# Altium integrated library Protel DOS Schematic Libraries.IntLib: 1273 symbols (part 4 of 9)
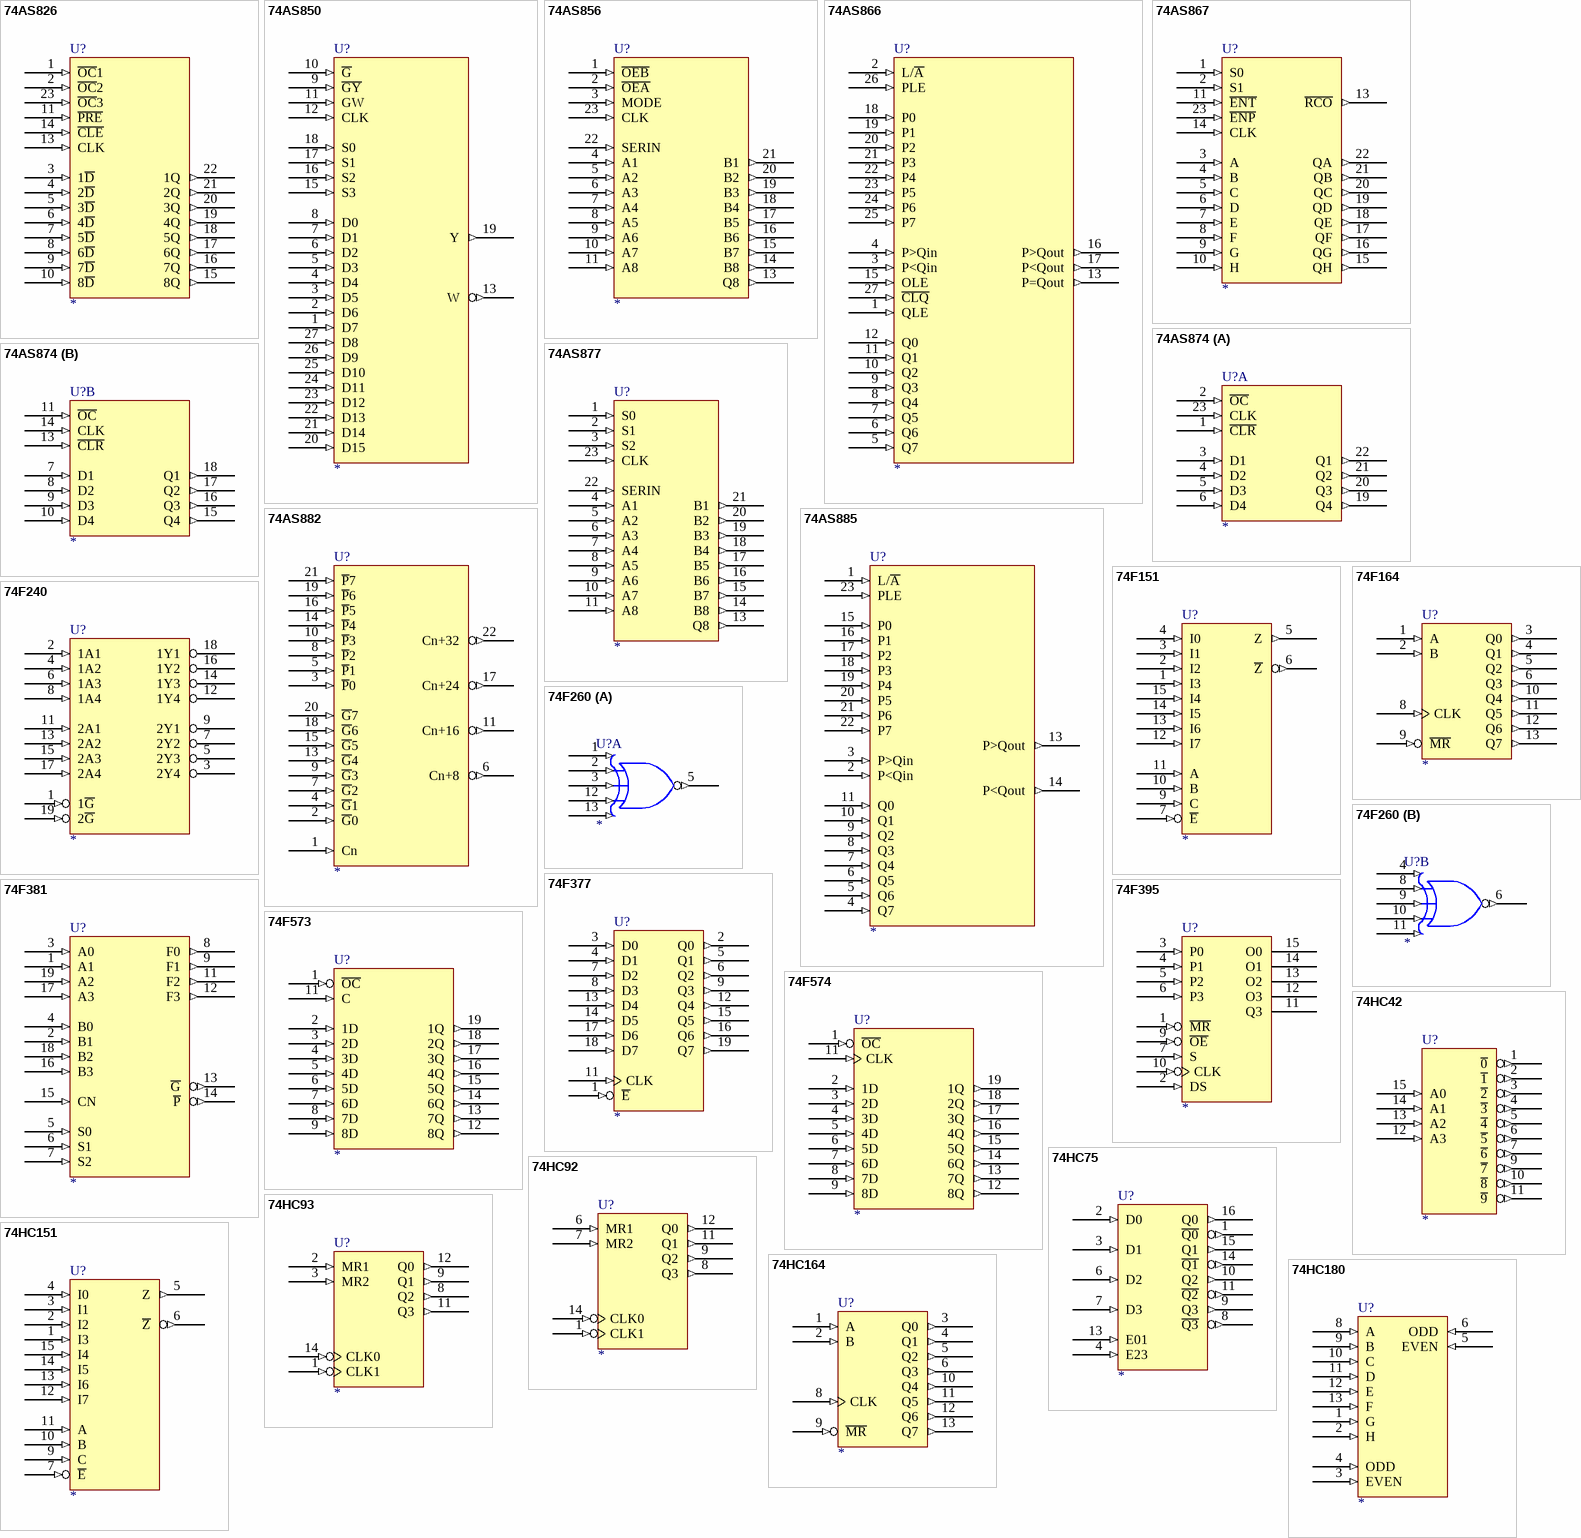
[diagram p72: symbols 74AS826 to 74HC180]

## 74AS850
designator U?
footprint DIP-28
pins: 1 D7 (in), 2 D6 (in), 3 D5 (in), 4 D4 (in), 5 D3 (in), 6 D2 (in), 7 D1 (in), 8 D0 (in), 9 ~{GY} (in), 10 ~{G} (in), 11 GW (in), 12 CLK (in), 13 W (out), 14 GND (power) hidden to GND, 15 S3 (in), 16 S2 (in), 17 S1 (in), 18 S0 (in), 19 Y (out), 20 D15 (in), 21 D14 (in), 22 D13 (in), 23 D12 (in), 24 D11 (in), 25 D10 (in), 26 D9 (in), 27 D8 (in), 28 VCC (power) hidden to VCC

## 74AS856
designator U?
footprint DIP-24
pins: 1 ~{OEB} (in), 2 ~{OEA} (in), 3 MODE (in), 4 A1 (in), 5 A2 (in), 6 A3 (in), 7 A4 (in), 8 A5 (in), 9 A6 (in), 10 A7 (in), 11 A8 (in), 12 GND (power) hidden to GND, 13 Q8 (out), 14 B8 (out), 15 B7 (out), 16 B6 (out), 17 B5 (out), 18 B4 (out), 19 B3 (out), 20 B2 (out), 21 B1 (out), 22 SERIN (in), 23 CLK (in), 24 VCC (power) hidden to VCC

## 74AS866
designator U?
footprint DIP-28
pins: 1 QLE (in), 2 L/~{A} (in), 3 P<Qin (in), 4 P>Qin (in), 5 Q7 (in), 6 Q6 (in), 7 Q5 (in), 8 Q4 (in), 9 Q3 (in), 10 Q2 (in), 11 Q1 (in), 12 Q0 (in), 13 P=Qout (out), 14 GND (power) hidden to GND, 15 OLE (in), 16 P>Qout (out), 17 P<Qout (out), 18 P0 (in), 19 P1 (in), 20 P2 (in), 21 P3 (in), 22 P4 (in), 23 P5 (in), 24 P6 (in), 25 P7 (in), 26 PLE (in), 27 ~{CLQ} (in), 28 VCC (power) hidden to VCC

## 74AS867
designator U?
footprint DIP-24
pins: 1 S0 (in), 2 S1 (in), 3 A (in), 4 B (in), 5 C (in), 6 D (in), 7 E (in), 8 F (in), 9 G (in), 10 H (in), 11 ~{ENT} (in), 12 GND (power) hidden to GND, 13 ~{RCO} (out), 14 CLK (in), 15 QH (out), 16 QG (out), 17 QF (out), 18 QE (out), 19 QD (out), 20 QC (out), 21 QB (out), 22 QA (out), 23 ~{ENP} (in), 24 VCC (power) hidden to VCC

## 74AS874
designator U?
footprint DIP-24
part A pins: 1 ~{CLR} (in), 2 ~{OC} (in), 3 D1 (in), 4 D2 (in), 5 D3 (in), 6 D4 (in), 12 GND (power) hidden to GND, 19 Q4 (out), 20 Q3 (out), 21 Q2 (out), 22 Q1 (out), 23 CLK (in), 24 VCC (power) hidden to VCC
part B pins: 7 D1 (in), 8 D2 (in), 9 D3 (in), 10 D4 (in), 11 ~{OC} (in), 12 GND (power) hidden to GND, 13 ~{CLR} (in), 14 CLK (in), 15 Q4 (out), 16 Q3 (out), 17 Q2 (out), 18 Q1 (out), 24 VCC (power) hidden to VCC

## 74AS877
designator U?
footprint DIP-24
pins: 1 S0 (in), 2 S1 (in), 3 S2 (in), 4 A1 (in), 5 A2 (in), 6 A3 (in), 7 A4 (in), 8 A5 (in), 9 A6 (in), 10 A7 (in), 11 A8 (in), 12 GND (power) hidden to GND, 13 Q8 (out), 14 B8 (out), 15 B7 (out), 16 B6 (out), 17 B5 (out), 18 B4 (out), 19 B3 (out), 20 B2 (out), 21 B1 (out), 22 SERIN (in), 23 CLK (in), 24 VCC (power) hidden to VCC

## 74AS882
designator U?
footprint DIP-24
pins: 1 Cn (in), 2 ~{G}0 (in), 3 ~{P}0 (in), 4 ~{G}1 (in), 5 ~{P}1 (in), 6 Cn+8 (out), 7 ~{G}2 (in), 8 ~{P}2 (in), 9 ~{G}3 (in), 10 ~{P}3 (in), 11 Cn+16 (out), 12 GND (power) hidden to GND, 13 ~{G}4 (in), 14 ~{P}4 (in), 15 ~{G}5 (in), 16 ~{P}5 (in), 17 Cn+24 (out), 18 ~{G}6 (in), 19 ~{P}6 (in), 20 ~{G}7 (in), 21 ~{P}7 (in), 22 Cn+32 (out), 24 VCC (power) hidden to VCC

## 74AS885
designator U?
footprint DIP-24
pins: 1 L/~{A} (in), 2 P<Qin (in), 3 P>Qin (in), 4 Q7 (in), 5 Q6 (in), 6 Q5 (in), 7 Q4 (in), 8 Q3 (in), 9 Q2 (in), 10 Q1 (in), 11 Q0 (in), 12 GND (power) hidden to GND, 13 P>Qout (out), 14 P<Qout (out), 15 P0 (in), 16 P1 (in), 17 P2 (in), 18 P3 (in), 19 P4 (in), 20 P5 (in), 21 P6 (in), 22 P7 (in), 23 PLE (in), 24 VCC (power) hidden to VCC

## 74F151
designator U?
footprint DIP-16
pins: 1 I3 (in), 2 I2 (in), 3 I1 (in), 4 I0 (in), 5 Z (out), 6 ~{Z} (out), 7 ~{E} (in), 8 GND (power) hidden to GND, 9 C (in), 10 B (in), 11 A (in), 12 I7 (in), 13 I6 (in), 14 I5 (in), 15 I4 (in), 16 VCC (power) hidden to VCC

## 74F164
designator U?
footprint DIP-14
pins: 1 A (in), 2 B (in), 3 Q0 (out), 4 Q1 (out), 5 Q2 (out), 6 Q3 (out), 7 GND (power) hidden to GND, 8 CLK (in), 9 ~{MR} (in), 10 Q4 (out), 11 Q5 (out), 12 Q6 (out), 13 Q7 (out), 14 VCC (power) hidden to VCC

## 74F240
designator U?
footprint DIP-20
pins: 1 1~{G} (in), 2 1A1 (in), 3 2Y4 (hiz), 4 1A2 (in), 5 2Y3 (hiz), 6 1A3 (in), 7 2Y2 (hiz), 8 1A4 (in), 9 2Y1 (hiz), 10 GND (power) hidden to GND, 11 2A1 (in), 12 1Y4 (hiz), 13 2A2 (in), 14 1Y3 (hiz), 15 2A3 (in), 16 1Y2 (hiz), 17 2A4 (in), 18 1Y1 (hiz), 19 2~{G} (in), 20 VCC (power) hidden to VCC

## 74F260
designator U?
footprint DIP-14
part A pins: 1 (in), 2 (in), 3 (in), 5 (out), 7 GND (power) hidden to GND, 12 (in), 13 (in), 14 VCC (power) hidden to VCC
part B pins: 4 (in), 6 (out), 7 GND (power) hidden to GND, 8 (in), 9 (in), 10 (in), 11 (in), 14 VCC (power) hidden to VCC

## 74F377
designator U?
footprint DIP-20
pins: 1 ~{E} (in), 2 Q0 (out), 3 D0 (in), 4 D1 (in), 5 Q1 (out), 6 Q2 (out), 7 D2 (in), 8 D3 (in), 9 Q3 (out), 10 GND (power) hidden to GND, 11 CLK (in), 12 Q4 (out), 13 D4 (in), 14 D5 (in), 15 Q5 (out), 16 Q6 (out), 17 D6 (in), 18 D7 (in), 19 Q7 (out), 20 VCC (power) hidden to VCC

## 74F381
designator U?
footprint DIP-20
pins: 1 A1 (in), 2 B1 (in), 3 A0 (in), 4 B0 (in), 5 S0 (in), 6 S1 (in), 7 S2 (in), 8 F0 (out), 9 F1 (out), 10 GND (power) hidden to GND, 11 F2 (out), 12 F3 (out), 13 ~{G} (out), 14 ~{P} (out), 15 CN (in), 16 B3 (in), 17 A3 (in), 18 B2 (in), 19 A2 (in), 20 VCC (power) hidden to VCC

## 74F395
designator U?
footprint DIP-16
pins: 1 ~{MR} (in), 2 DS (in), 3 P0 (in), 4 P1 (in), 5 P2 (in), 6 P3 (in), 7 S (in), 8 GND (power) hidden to GND, 9 ~{OE} (in), 10 CLK (in), 11 Q3 (hiz), 12 O3 (hiz), 13 O2 (hiz), 14 O1 (hiz), 15 O0 (hiz), 16 VCC (power) hidden to VCC

## 74F573
designator U?
footprint DIP-20
pins: 1 ~{OC} (in), 2 1D (in), 3 2D (in), 4 3D (in), 5 4D (in), 6 5D (in), 7 6D (in), 8 7D (in), 9 8D (in), 10 GND (power) hidden to GND, 11 C (in), 12 8Q (out), 13 7Q (out), 14 6Q (out), 15 5Q (out), 16 4Q (out), 17 3Q (out), 18 2Q (out), 19 1Q (out), 20 VCC (power) hidden to VCC

## 74F574
designator U?
footprint DIP-20
pins: 1 ~{OC} (in), 2 1D (in), 3 2D (in), 4 3D (in), 5 4D (in), 6 5D (in), 7 6D (in), 8 7D (in), 9 8D (in), 10 GND (power) hidden to GND, 11 CLK (in), 12 8Q (out), 13 7Q (out), 14 6Q (out), 15 5Q (out), 16 4Q (out), 17 3Q (out), 18 2Q (out), 19 1Q (out), 20 VCC (power) hidden to VCC

## 74HC42
designator U?
footprint DIP-16
pins: 1 ~{0} (out), 2 ~{1} (out), 3 ~{2} (out), 4 ~{3} (out), 5 ~{4} (out), 6 ~{5} (out), 7 ~{6} (out), 8 GND (power) hidden to GND, 9 ~{7} (out), 10 ~{8} (out), 11 ~{9} (out), 12 A3 (in), 13 A2 (in), 14 A1 (in), 15 A0 (in), 16 VCC (power) hidden to VCC

## 74HC75
designator U?
footprint DIP-16
pins: 1 ~{Q0} (out), 2 D0 (in), 3 D1 (in), 4 E23 (in), 5 VCC (power) hidden to VCC, 6 D2 (in), 7 D3 (in), 8 ~{Q3} (out), 9 Q3 (out), 10 Q2 (out), 11 ~{Q2} (out), 12 GND (power) hidden to GND, 13 E01 (in), 14 ~{Q1} (out), 15 Q1 (out), 16 Q0 (out)

## 74HC92
designator U?
footprint DIP-14
pins: 1 CLK1 (in), 5 VCC (power) hidden to VCC, 6 MR1 (in), 7 MR2 (in), 8 Q3 (out), 9 Q2 (out), 10 GND (power) hidden to GND, 11 Q1 (out), 12 Q0 (out), 14 CLK0 (in)

## 74HC93
designator U?
footprint DIP-14
pins: 1 CLK1 (in), 2 MR1 (in), 3 MR2 (in), 5 VCC (power) hidden to VCC, 8 Q2 (out), 9 Q1 (out), 10 GND (power) hidden to GND, 11 Q3 (out), 12 Q0 (out), 14 CLK0 (in)

## 74HC151
designator U?
footprint DIP-16
pins: 1 I3 (in), 2 I2 (in), 3 I1 (in), 4 I0 (in), 5 Z (out), 6 ~{Z} (out), 7 ~{E} (in), 8 GND (power) hidden to GND, 9 C (in), 10 B (in), 11 A (in), 12 I7 (in), 13 I6 (in), 14 I5 (in), 15 I4 (in), 16 VCC (power) hidden to VCC

## 74HC164
designator U?
footprint DIP-14
pins: 1 A (in), 2 B (in), 3 Q0 (out), 4 Q1 (out), 5 Q2 (out), 6 Q3 (out), 7 GND (power) hidden to GND, 8 CLK (in), 9 ~{MR} (in), 10 Q4 (out), 11 Q5 (out), 12 Q6 (out), 13 Q7 (out), 14 VCC (power) hidden to VCC

## 74HC180
designator U?
footprint DIP-14
pins: 1 G (in), 2 H (in), 3 EVEN (in), 4 ODD (in), 5 EVEN (in), 6 ODD (in), 7 GND (power) hidden to GND, 8 A (in), 9 B (in), 10 C (in), 11 D (in), 12 E (in), 13 F (in), 14 VCC (power) hidden to VCC

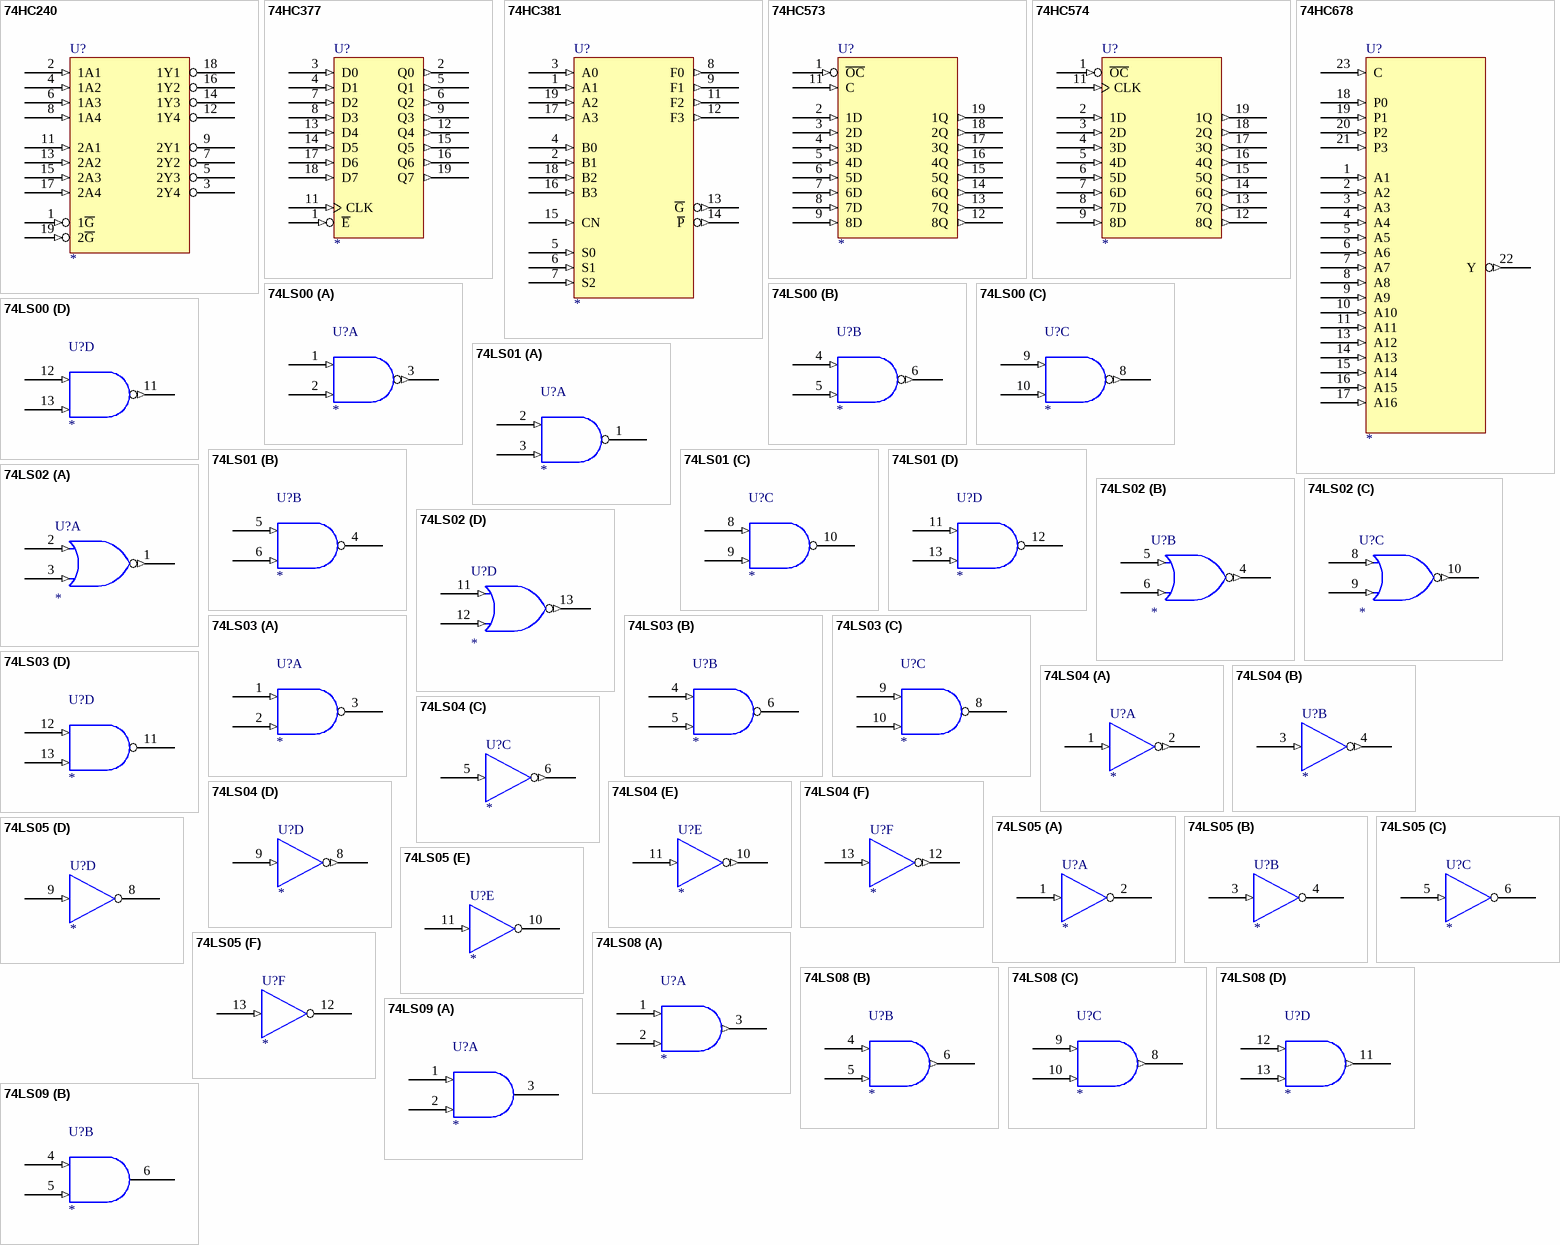
[diagram p26: symbols 74HC240 to 74LS09]

## 74HC240
designator U?
footprint DIP-20
pins: 1 1~{G} (in), 2 1A1 (in), 3 2Y4 (hiz), 4 1A2 (in), 5 2Y3 (hiz), 6 1A3 (in), 7 2Y2 (hiz), 8 1A4 (in), 9 2Y1 (hiz), 10 GND (power) hidden to GND, 11 2A1 (in), 12 1Y4 (hiz), 13 2A2 (in), 14 1Y3 (hiz), 15 2A3 (in), 16 1Y2 (hiz), 17 2A4 (in), 18 1Y1 (hiz), 19 2~{G} (in), 20 VCC (power) hidden to VCC

## 74HC377
designator U?
footprint DIP-20
pins: 1 ~{E} (in), 2 Q0 (out), 3 D0 (in), 4 D1 (in), 5 Q1 (out), 6 Q2 (out), 7 D2 (in), 8 D3 (in), 9 Q3 (out), 11 CLK (in), 11 GND (power) hidden to GND, 12 Q4 (out), 13 D4 (in), 14 D5 (in), 15 Q5 (out), 16 Q6 (out), 17 D6 (in), 18 D7 (in), 19 Q7 (out), 20 VCC (power) hidden to VCC

## 74HC381
designator U?
footprint DIP-20
pins: 1 A1 (in), 2 B1 (in), 3 A0 (in), 4 B0 (in), 5 S0 (in), 6 S1 (in), 7 S2 (in), 8 F0 (out), 9 F1 (out), 10 GND (power) hidden to GND, 11 F2 (out), 12 F3 (out), 13 ~{G} (out), 14 ~{P} (out), 15 CN (in), 16 B3 (in), 17 A3 (in), 18 B2 (in), 19 A2 (in), 20 VCC (power) hidden to VCC

## 74HC573
designator U?
footprint DIP-20
pins: 1 ~{OC} (in), 2 1D (in), 3 2D (in), 4 3D (in), 5 4D (in), 6 5D (in), 7 6D (in), 8 7D (in), 9 8D (in), 10 GND (power) hidden to GND, 11 C (in), 12 8Q (out), 13 7Q (out), 14 6Q (out), 15 5Q (out), 16 4Q (out), 17 3Q (out), 18 2Q (out), 19 1Q (out), 20 VCC (power) hidden to VCC

## 74HC574
designator U?
footprint DIP-20
pins: 1 ~{OC} (in), 2 1D (in), 3 2D (in), 4 3D (in), 5 4D (in), 6 5D (in), 7 6D (in), 8 7D (in), 9 8D (in), 10 GND (power) hidden to GND, 11 CLK (in), 12 8Q (out), 13 7Q (out), 14 6Q (out), 15 5Q (out), 16 4Q (out), 17 3Q (out), 18 2Q (out), 19 1Q (out), 20 VCC (power) hidden to VCC

## 74HC678
designator U?
footprint DIP-24
pins: 1 A1 (in), 2 A2 (in), 3 A3 (in), 4 A4 (in), 5 A5 (in), 6 A6 (in), 7 A7 (in), 8 A8 (in), 9 A9 (in), 10 A10 (in), 11 A11 (in), 12 GND (power) hidden to GND, 13 A12 (in), 14 A13 (in), 15 A14 (in), 16 A15 (in), 17 A16 (in), 18 P0 (in), 19 P1 (in), 20 P2 (in), 21 P3 (in), 22 Y (out), 23 C (in), 24 VCC (power) hidden to VCC

## 74LS00
designator U?
footprint DIP-14
part A pins: 1 (in), 2 (in), 3 (out), 7 GND (power) hidden to GND, 14 VCC (power) hidden to VCC
part B pins: 4 (in), 5 (in), 6 (out), 7 GND (power) hidden to GND, 14 VCC (power) hidden to VCC
part C pins: 7 GND (power) hidden to GND, 8 (out), 9 (in), 10 (in), 14 VCC (power) hidden to VCC
part D pins: 7 GND (power) hidden to GND, 11 (out), 12 (in), 13 (in), 14 VCC (power) hidden to VCC

## 74LS01
designator U?
footprint DIP-14
part A pins: 1 (oc), 2 (in), 3 (in), 7 GND (power) hidden to GND, 14 VCC (power) hidden to VCC
part B pins: 4 (oc), 5 (in), 6 (in), 7 GND (power) hidden to GND, 14 VCC (power) hidden to VCC
part C pins: 7 GND (power) hidden to GND, 8 (in), 9 (in), 10 (oc), 14 VCC (power) hidden to VCC
part D pins: 7 GND (power) hidden to GND, 11 (in), 12 (oc), 13 (in), 14 VCC (power) hidden to VCC

## 74LS02
designator U?
footprint DIP-14
part A pins: 1 (out), 2 (in), 3 (in), 7 GND (power) hidden to GND, 14 VCC (power) hidden to VCC
part B pins: 4 (out), 5 (in), 6 (in), 7 GND (power) hidden to GND, 14 VCC (power) hidden to VCC
part C pins: 7 GND (power) hidden to GND, 8 (in), 9 (in), 10 (out), 14 VCC (power) hidden to VCC
part D pins: 7 GND (power) hidden to GND, 11 (in), 12 (in), 13 (out), 14 VCC (power) hidden to VCC

## 74LS03
designator U?
footprint DIP-14
part A pins: 1 (in), 2 (in), 3 (oc), 7 GND (power) hidden to GND, 14 VCC (power) hidden to VCC
part B pins: 4 (in), 5 (in), 6 (oc), 7 GND (power) hidden to GND, 14 VCC (power) hidden to VCC
part C pins: 7 GND (power) hidden to GND, 8 (oc), 9 (in), 10 (in), 14 VCC (power) hidden to VCC
part D pins: 7 GND (power) hidden to GND, 11 (oc), 12 (in), 13 (in), 14 VCC (power) hidden to VCC

## 74LS04
designator U?
footprint DIP-14
part A pins: 1 (in), 2 (out), 7 GND (power) hidden to GND, 14 VCC (power) hidden to VCC
part B pins: 3 (in), 4 (out), 7 GND (power) hidden to GND, 14 VCC (power) hidden to VCC
part C pins: 5 (in), 6 (out), 7 GND (power) hidden to GND, 14 VCC (power) hidden to VCC
part D pins: 7 GND (power) hidden to GND, 8 (out), 9 (in), 14 VCC (power) hidden to VCC
part E pins: 7 GND (power) hidden to GND, 10 (out), 11 (in), 14 VCC (power) hidden to VCC
part F pins: 7 GND (power) hidden to GND, 12 (out), 13 (in), 14 VCC (power) hidden to VCC

## 74LS05
designator U?
footprint DIP-14
part A pins: 1 (in), 2 (oc), 7 GND (power) hidden to GND, 14 VCC (power) hidden to VCC
part B pins: 3 (in), 4 (oc), 7 GND (power) hidden to GND, 14 VCC (power) hidden to VCC
part C pins: 5 (in), 6 (oc), 7 GND (power) hidden to GND, 14 VCC (power) hidden to VCC
part D pins: 7 GND (power) hidden to GND, 8 (oc), 9 (in), 14 VCC (power) hidden to VCC
part E pins: 7 GND (power) hidden to GND, 10 (oc), 11 (in), 14 VCC (power) hidden to VCC
part F pins: 7 GND (power) hidden to GND, 12 (oc), 13 (in), 14 VCC (power) hidden to VCC

## 74LS08
designator U?
footprint DIP-14
part A pins: 1 (in), 2 (in), 3 (out), 7 GND (power) hidden to GND, 14 VCC (power) hidden to VCC
part B pins: 4 (in), 5 (in), 6 (out), 7 GND (power) hidden to GND, 14 VCC (power) hidden to VCC
part C pins: 7 GND (power) hidden to GND, 8 (out), 9 (in), 10 (in), 14 VCC (power) hidden to VCC
part D pins: 7 GND (power) hidden to GND, 11 (out), 12 (in), 13 (in), 14 VCC (power) hidden to VCC

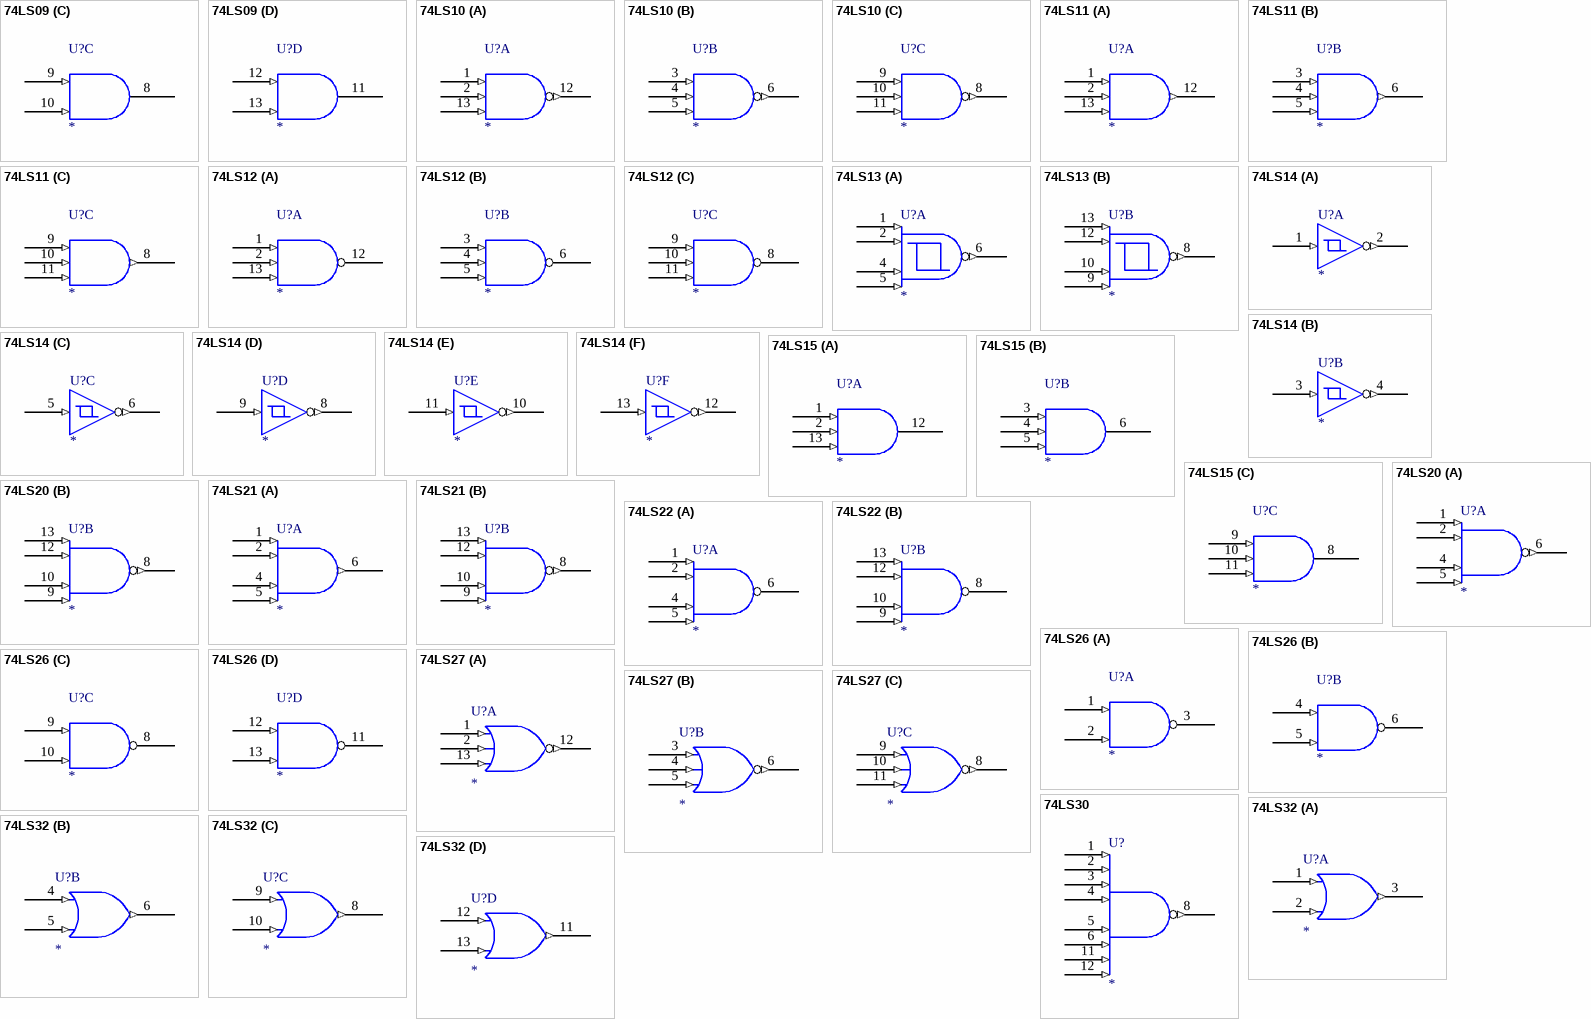
[diagram p27: symbols 74LS09 to 74LS32]

## 74LS09
designator U?
footprint DIP-14
part A pins: 1 (in), 2 (in), 3 (oc), 7 GND (power) hidden to GND, 14 VCC (power) hidden to VCC
part B pins: 4 (in), 5 (in), 6 (oc), 7 GND (power) hidden to GND, 14 VCC (power) hidden to VCC
part C pins: 7 GND (power) hidden to GND, 8 (oc), 9 (in), 10 (in), 14 VCC (power) hidden to VCC
part D pins: 7 GND (power) hidden to GND, 11 (oc), 12 (in), 13 (in), 14 VCC (power) hidden to VCC

## 74LS10
designator U?
footprint DIP-14
part A pins: 1 (in), 2 (in), 7 GND (power) hidden to GND, 12 (out), 13 (in), 14 VCC (power) hidden to VCC
part B pins: 3 (in), 4 (in), 5 (in), 6 (out), 7 GND (power) hidden to GND, 14 VCC (power) hidden to VCC
part C pins: 7 GND (power) hidden to GND, 8 (out), 9 (in), 10 (in), 11 (in), 14 VCC (power) hidden to VCC

## 74LS11
designator U?
footprint DIP-14
part A pins: 1 (in), 2 (in), 7 GND (power) hidden to GND, 12 (out), 13 (in), 14 VCC (power) hidden to VCC
part B pins: 3 (in), 4 (in), 5 (in), 6 (out), 7 GND (power) hidden to GND, 14 VCC (power) hidden to VCC
part C pins: 7 GND (power) hidden to GND, 8 (out), 9 (in), 10 (in), 11 (in), 14 VCC (power) hidden to VCC

## 74LS12
designator U?
footprint DIP-14
part A pins: 1 (in), 2 (in), 7 GND (power) hidden to GND, 12 (oc), 13 (in), 14 VCC (power) hidden to VCC
part B pins: 3 (in), 4 (in), 5 (in), 6 (oc), 7 GND (power) hidden to GND, 14 VCC (power) hidden to VCC
part C pins: 7 GND (power) hidden to GND, 8 (oc), 9 (in), 10 (in), 11 (in), 14 VCC (power) hidden to VCC

## 74LS13
designator U?
footprint DIP-14
part A pins: 1 (in), 2 (in), 4 (in), 5 (in), 6 (out), 7 GND (power) hidden to GND, 14 VCC (power) hidden to VCC
part B pins: 7 GND (power) hidden to GND, 8 (out), 9 (in), 10 (in), 12 (in), 13 (in), 14 VCC (power) hidden to VCC

## 74LS14
designator U?
footprint DIP-14
part A pins: 1 (in), 2 (out), 7 GND (power) hidden to GND, 14 VCC (power) hidden to VCC
part B pins: 3 (in), 4 (out), 7 GND (power) hidden to GND, 14 VCC (power) hidden to VCC
part C pins: 5 (in), 6 (out), 7 GND (power) hidden to GND, 14 VCC (power) hidden to VCC
part D pins: 7 GND (power) hidden to GND, 8 (out), 9 (in), 14 VCC (power) hidden to VCC
part E pins: 7 GND (power) hidden to GND, 10 (out), 11 (in), 14 VCC (power) hidden to VCC
part F pins: 7 GND (power) hidden to GND, 12 (out), 13 (in), 14 VCC (power) hidden to VCC

## 74LS15
designator U?
footprint DIP-14
part A pins: 1 (in), 2 (in), 7 GND (power) hidden to GND, 12 (oc), 13 (in), 14 VCC (power) hidden to VCC
part B pins: 3 (in), 4 (in), 5 (in), 6 (oc), 7 GND (power) hidden to GND, 14 VCC (power) hidden to VCC
part C pins: 7 GND (power) hidden to GND, 8 (oc), 9 (in), 10 (in), 11 (in), 14 VCC (power) hidden to VCC

## 74LS20
designator U?
footprint DIP-14
part A pins: 1 (in), 2 (in), 4 (in), 5 (in), 6 (out), 7 GND (power) hidden to GND, 14 VCC (power) hidden to VCC
part B pins: 7 GND (power) hidden to GND, 8 (out), 9 (in), 10 (in), 12 (in), 13 (in), 14 VCC (power) hidden to VCC

## 74LS21
designator U?
footprint DIP-14
part A pins: 1 (in), 2 (in), 4 (in), 5 (in), 6 (out), 7 GND (power) hidden to GND, 14 VCC (power) hidden to VCC
part B pins: 7 GND (power) hidden to GND, 8 (out), 9 (in), 10 (in), 12 (in), 13 (in), 14 VCC (power) hidden to VCC

## 74LS22
designator U?
footprint DIP-14
part A pins: 1 (in), 2 (in), 4 (in), 5 (in), 6 (oc), 7 GND (power) hidden to GND, 14 VCC (power) hidden to VCC
part B pins: 7 GND (power) hidden to GND, 8 (oc), 9 (in), 10 (in), 12 (in), 13 (in), 14 VCC (power) hidden to VCC

## 74LS26
designator U?
footprint DIP-14
part A pins: 1 (in), 2 (in), 3 (oc), 7 GND (power) hidden to GND, 14 VCC (power) hidden to VCC
part B pins: 4 (in), 5 (in), 6 (oc), 7 GND (power) hidden to GND, 14 VCC (power) hidden to VCC
part C pins: 7 GND (power) hidden to GND, 8 (oc), 9 (in), 10 (in), 14 VCC (power) hidden to VCC
part D pins: 7 GND (power) hidden to GND, 11 (oc), 12 (in), 13 (in), 14 VCC (power) hidden to VCC

## 74LS27
designator U?
footprint DIP-14
part A pins: 1 (in), 2 (in), 7 GND (power) hidden to GND, 12 (out), 13 (in), 14 VCC (power) hidden to VCC
part B pins: 3 (in), 4 (in), 5 (in), 6 (out), 7 GND (power) hidden to GND, 14 VCC (power) hidden to VCC
part C pins: 7 GND (power) hidden to GND, 8 (out), 9 (in), 10 (in), 11 (in), 14 VCC (power) hidden to VCC

## 74LS30
designator U?
footprint DIP-14
pins: 1 (in), 2 (in), 3 (in), 4 (in), 5 (in), 6 (in), 7 GND (power) hidden to GND, 8 (out), 11 (in), 12 (in), 14 VCC (power) hidden to VCC

## 74LS32
designator U?
footprint DIP-14
part A pins: 1 (in), 2 (in), 3 (out), 7 GND (power) hidden to GND, 14 VCC (power) hidden to VCC
part B pins: 4 (in), 5 (in), 6 (out), 7 GND (power) hidden to GND, 14 VCC (power) hidden to VCC
part C pins: 7 GND (power) hidden to GND, 8 (out), 9 (in), 10 (in), 14 VCC (power) hidden to VCC
part D pins: 7 GND (power) hidden to GND, 11 (out), 12 (in), 13 (in), 14 VCC (power) hidden to VCC

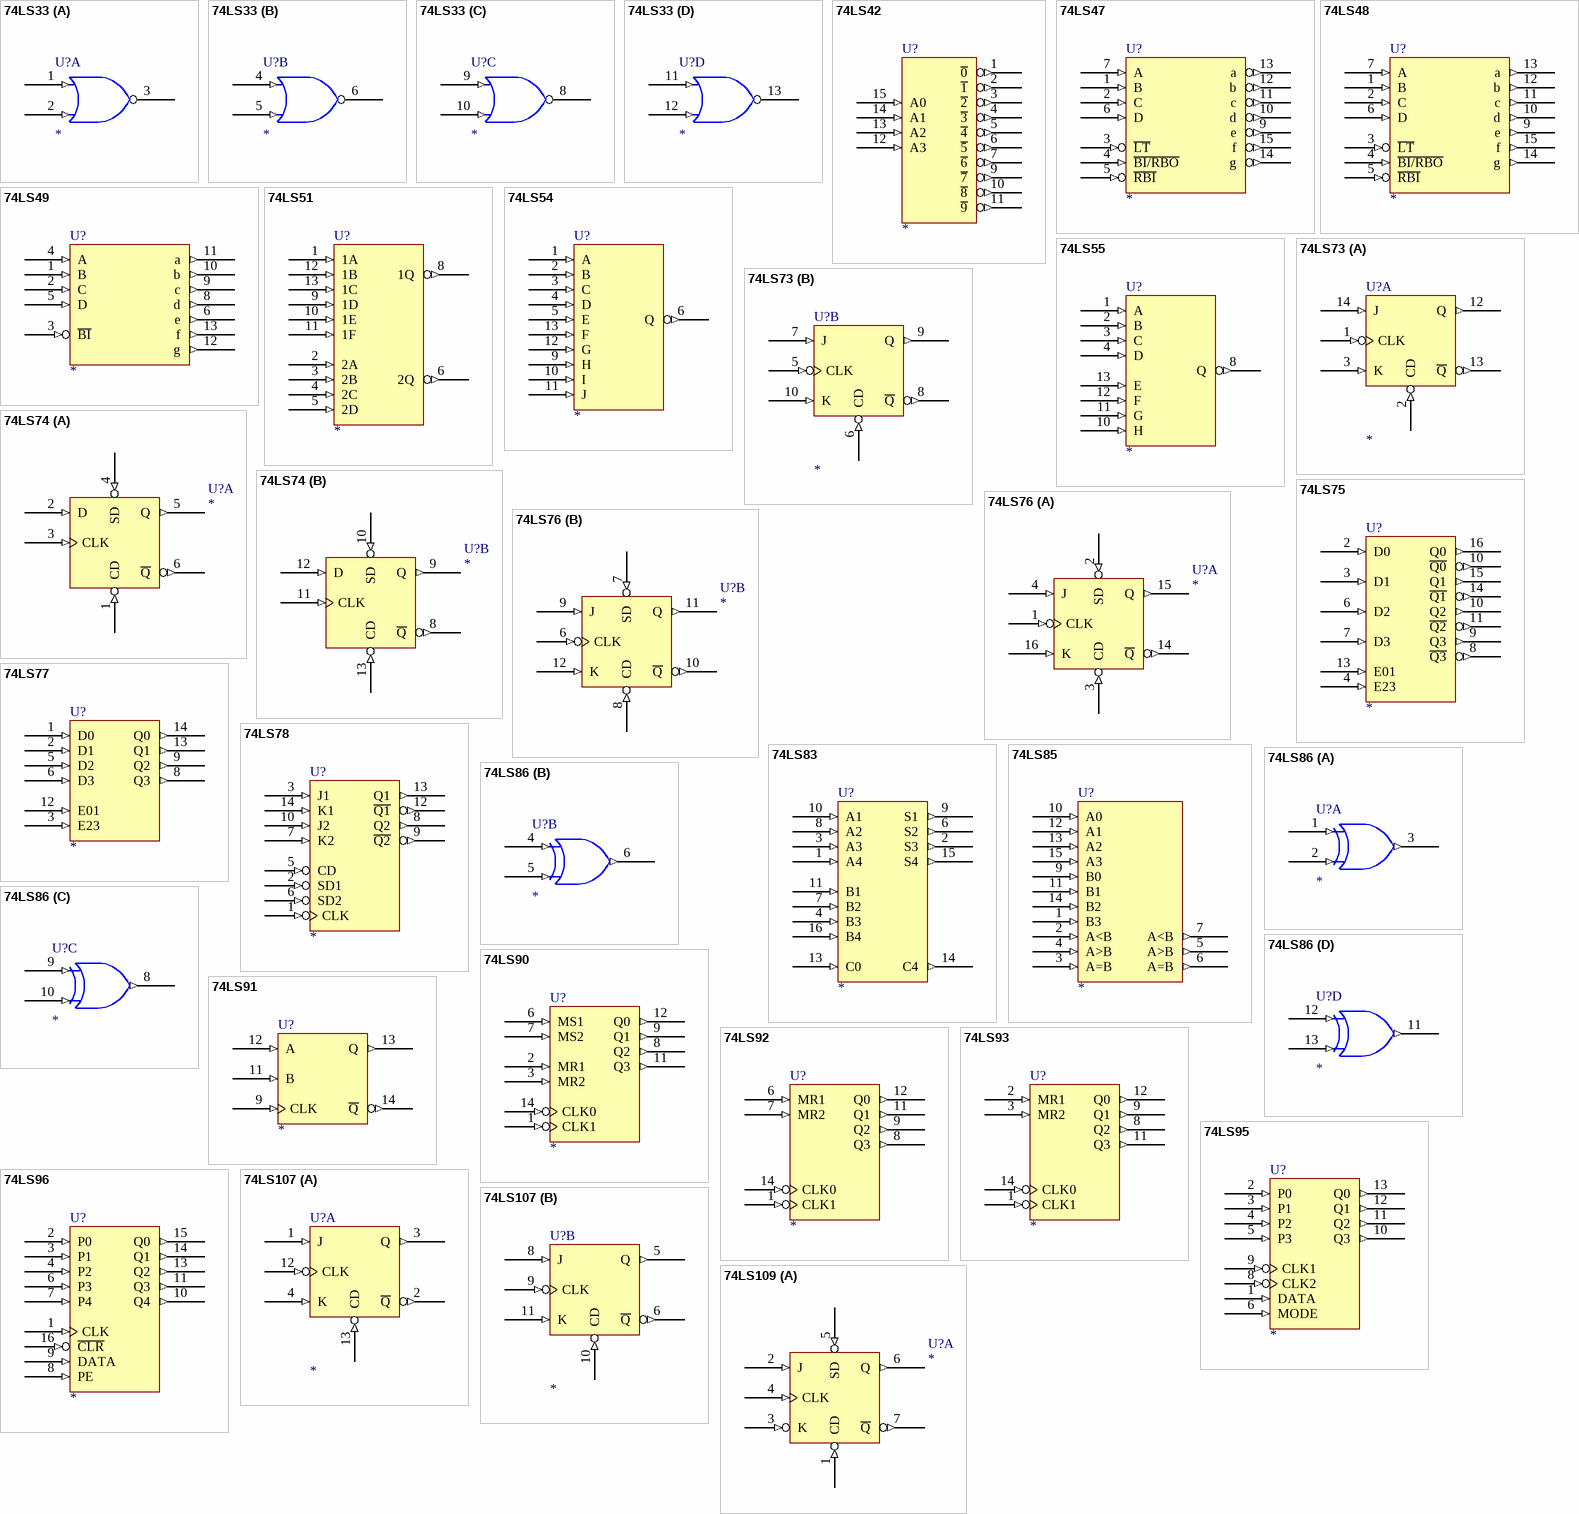
[diagram p28: symbols 74LS33 to 74LS109]

## 74LS33
designator U?
footprint DIP-14
part A pins: 1 (in), 2 (in), 3 (oc), 7 GND (power) hidden to GND, 14 VCC (power) hidden to VCC
part B pins: 4 (in), 5 (in), 6 (oc), 7 GND (power) hidden to GND, 14 VCC (power) hidden to VCC
part C pins: 7 GND (power) hidden to GND, 8 (oc), 9 (in), 10 (in), 14 VCC (power) hidden to VCC
part D pins: 7 GND (power) hidden to GND, 11 (in), 12 (in), 13 (oc), 14 VCC (power) hidden to VCC

## 74LS42
designator U?
footprint DIP-14
pins: 1 ~{0} (out), 2 ~{1} (out), 3 ~{2} (out), 4 ~{3} (out), 5 ~{4} (out), 6 ~{5} (out), 7 ~{6} (out), 8 GND (power) hidden to GND, 9 ~{7} (out), 10 ~{8} (out), 11 ~{9} (out), 12 A3 (in), 13 A2 (in), 14 A1 (in), 15 A0 (in), 16 VCC (power) hidden to VCC

## 74LS47
designator U?
footprint DIP-14
pins: 1 B (in), 2 C (in), 3 ~{LT} (in), 4 ~{BI/RBO} (in), 5 ~{RBI} (in), 6 D (in), 7 A (in), 8 GND (power) hidden to GND, 9 e (out), 10 d (out), 11 c (out), 12 b (out), 13 a (out), 14 g (out), 15 f (out), 16 VCC (power) hidden to VCC

## 74LS48
designator U?
footprint DIP-14
pins: 1 B (in), 2 C (in), 3 ~{LT} (in), 4 ~{BI/RBO} (in), 5 ~{RBI} (in), 6 D (in), 7 A (in), 8 GND (power) hidden to GND, 9 e (out), 10 d (out), 11 c (out), 12 b (out), 13 a (out), 14 g (out), 15 f (out), 16 VCC (power) hidden to VCC

## 74LS49
designator U?
footprint DIP-14
pins: 1 B (in), 2 C (in), 3 ~{BI} (in), 4 A (in), 5 D (in), 6 e (out), 7 GND (power) hidden to GND, 8 d (out), 9 c (out), 10 b (out), 11 a (out), 12 g (out), 13 f (out), 14 VCC (power) hidden to VCC

## 74LS51
designator U?
footprint DIP-14
pins: 1 1A (in), 2 2A (in), 3 2B (in), 4 2C (in), 5 2D (in), 6 2Q (out), 7 GND (power) hidden to GND, 8 1Q (out), 9 1D (in), 10 1E (in), 11 1F (in), 12 1B (in), 13 1C (in), 14 VCC (power) hidden to VCC

## 74LS54
designator U?
footprint DIP-14
pins: 1 A (in), 2 B (in), 3 C (in), 4 D (in), 5 E (in), 6 Q (out), 7 GND (power) hidden to GND, 9 H (in), 10 I (in), 11 J (in), 12 G (in), 13 F (in), 14 VCC (power) hidden to VCC

## 74LS55
designator U?
footprint DIP-14
pins: 1 A (in), 2 B (in), 3 C (in), 4 D (in), 7 GND (power) hidden to GND, 8 Q (out), 10 H (in), 11 G (in), 12 F (in), 13 E (in), 14 VCC (power) hidden to VCC

## 74LS73
designator U?
footprint DIP-14
part A pins: 1 CLK (in), 2 CD (in), 3 K (in), 4 VCC (power) hidden to VCC, 11 GND (power) hidden to GND, 12 Q (out), 13 ~{Q} (out), 14 J (in)
part B pins: 4 VCC (power) hidden to VCC, 5 CLK (in), 6 CD (in), 7 J (in), 8 ~{Q} (out), 9 Q (out), 10 K (in), 11 GND (power) hidden to GND

## 74LS74
designator U?
footprint DIP-14
part A pins: 1 CD (in), 2 D (in), 3 CLK (in), 4 SD (in), 5 Q (out), 6 ~{Q} (out), 7 GND (power) hidden to GND, 14 VCC (power) hidden to VCC
part B pins: 7 GND (power) hidden to GND, 8 ~{Q} (out), 9 Q (out), 10 SD (in), 11 CLK (in), 12 D (in), 13 CD (in), 14 VCC (power) hidden to VCC

## 74LS75
designator U?
footprint DIP-16
pins: 2 D0 (in), 3 D1 (in), 4 E23 (in), 5 VCC (power) hidden to VCC, 6 D2 (in), 7 D3 (in), 8 ~{Q3} (out), 9 Q3 (out), 10 Q2 (out), 10 ~{Q0} (out), 11 ~{Q2} (out), 12 GND (power) hidden to GND, 13 E01 (in), 14 ~{Q1} (out), 15 Q1 (out), 16 Q0 (out)

## 74LS76
designator U?
footprint DIP-16
part A pins: 1 CLK (in), 2 SD (in), 3 CD (in), 4 J (in), 5 VCC (power) hidden to VCC, 13 GND (power) hidden to GND, 14 ~{Q} (out), 15 Q (out), 16 K (in)
part B pins: 5 VCC (power) hidden to VCC, 6 CLK (in), 7 SD (in), 8 CD (in), 9 J (in), 10 ~{Q} (out), 11 Q (out), 12 K (in), 13 GND (power) hidden to GND

## 74LS77
designator U?
footprint DIP-14
pins: 1 D0 (in), 2 D1 (in), 3 E23 (in), 4 VCC (power) hidden to VCC, 5 D2 (in), 6 D3 (in), 8 Q3 (out), 9 Q2 (out), 11 GND (power) hidden to GND, 12 E01 (in), 13 Q1 (out), 14 Q0 (out)

## 74LS78
designator U?
footprint DIP-14
pins: 1 CLK (in), 2 SD1 (in), 3 J1 (in), 4 VCC (power) hidden to VCC, 5 CD (in), 6 SD2 (in), 7 K2 (in), 8 Q2 (out), 9 ~{Q2} (out), 10 J2 (in), 11 GND (power) hidden to GND, 12 ~{Q1} (out), 13 Q1 (out), 14 K1 (in)

## 74LS83
designator U?
footprint DIP-16
pins: 1 A4 (in), 2 S3 (out), 3 A3 (in), 4 B3 (in), 5 VCC (power) hidden to VCC, 6 S2 (out), 7 B2 (in), 8 A2 (in), 9 S1 (out), 10 A1 (in), 11 B1 (in), 12 GND (power) hidden to GND, 13 C0 (in), 14 C4 (out), 15 S4 (out), 16 B4 (in)

## 74LS85
designator U?
footprint DIP-16
pins: 1 B3 (in), 2 A<B (in), 3 A=B (in), 4 A>B (in), 5 A>B (out), 6 A=B (out), 7 A<B (out), 8 GND (power) hidden to GND, 9 B0 (in), 10 A0 (in), 11 B1 (in), 12 A1 (in), 13 A2 (in), 14 B2 (in), 15 A3 (in), 16 VCC (power) hidden to VCC

## 74LS86
designator U?
footprint DIP-14
part A pins: 1 (in), 2 (in), 3 (out), 7 GND (power) hidden to GND, 14 VCC (power) hidden to VCC
part B pins: 4 (in), 5 (in), 6 (out), 7 GND (power) hidden to GND, 14 VCC (power) hidden to VCC
part C pins: 7 GND (power) hidden to GND, 8 (out), 9 (in), 10 (in), 14 VCC (power) hidden to VCC
part D pins: 7 GND (power) hidden to GND, 11 (out), 12 (in), 13 (in), 14 VCC (power) hidden to VCC

## 74LS90
designator U?
footprint DIP-14
pins: 1 CLK1 (in), 2 MR1 (in), 3 MR2 (in), 5 VCC (power) hidden to VCC, 6 MS1 (in), 7 MS2 (in), 8 Q2 (out), 9 Q1 (out), 10 GND (power) hidden to GND, 11 Q3 (out), 12 Q0 (out), 14 CLK0 (in)

## 74LS91
designator U?
footprint DIP-14
pins: 5 VCC (power) hidden to VCC, 9 CLK (in), 11 B (in), 11 GND (power) hidden to GND, 12 A (in), 13 Q (out), 14 ~{Q} (out)

## 74LS92
designator U?
footprint DIP-14
pins: 1 CLK1 (in), 5 VCC (power) hidden to VCC, 6 MR1 (in), 7 MR2 (in), 8 Q3 (out), 9 Q2 (out), 11 Q1 (out), 11 GND (power) hidden to GND, 12 Q0 (out), 14 CLK0 (in)

## 74LS93
designator U?
footprint DIP-14
pins: 1 CLK1 (in), 2 MR1 (in), 3 MR2 (in), 5 VCC (power) hidden to VCC, 8 Q2 (out), 9 Q1 (out), 11 Q3 (out), 11 GND (power) hidden to GND, 12 Q0 (out), 14 CLK0 (in)

## 74LS95
designator U?
footprint DIP-14
pins: 1 DATA (in), 2 P0 (in), 3 P1 (in), 4 P2 (in), 5 P3 (in), 6 MODE (in), 8 CLK2 (in), 8 GND (power) hidden to GND, 9 CLK1 (in), 10 Q3 (out), 11 Q2 (out), 12 Q1 (out), 13 Q0 (out), 16 VCC (power) hidden to VCC

## 74LS96
designator U?
footprint DIP-16
pins: 1 CLK (in), 2 P0 (in), 3 P1 (in), 4 P2 (in), 5 VCC (power) hidden to VCC, 6 P3 (in), 7 P4 (in), 8 PE (in), 9 DATA (in), 10 Q4 (out), 11 Q3 (out), 12 GND (power) hidden to GND, 13 Q2 (out), 14 Q1 (out), 15 Q0 (out), 16 ~{CLR} (in)

## 74LS107
designator U?
footprint DIP-14
part A pins: 1 J (in), 2 ~{Q} (out), 3 Q (out), 4 K (in), 7 GND (power) hidden to GND, 12 CLK (in), 13 CD (in), 14 VCC (power) hidden to VCC
part B pins: 5 Q (out), 6 ~{Q} (out), 7 GND (power) hidden to GND, 8 J (in), 9 CLK (in), 10 CD (in), 11 K (in), 14 VCC (power) hidden to VCC

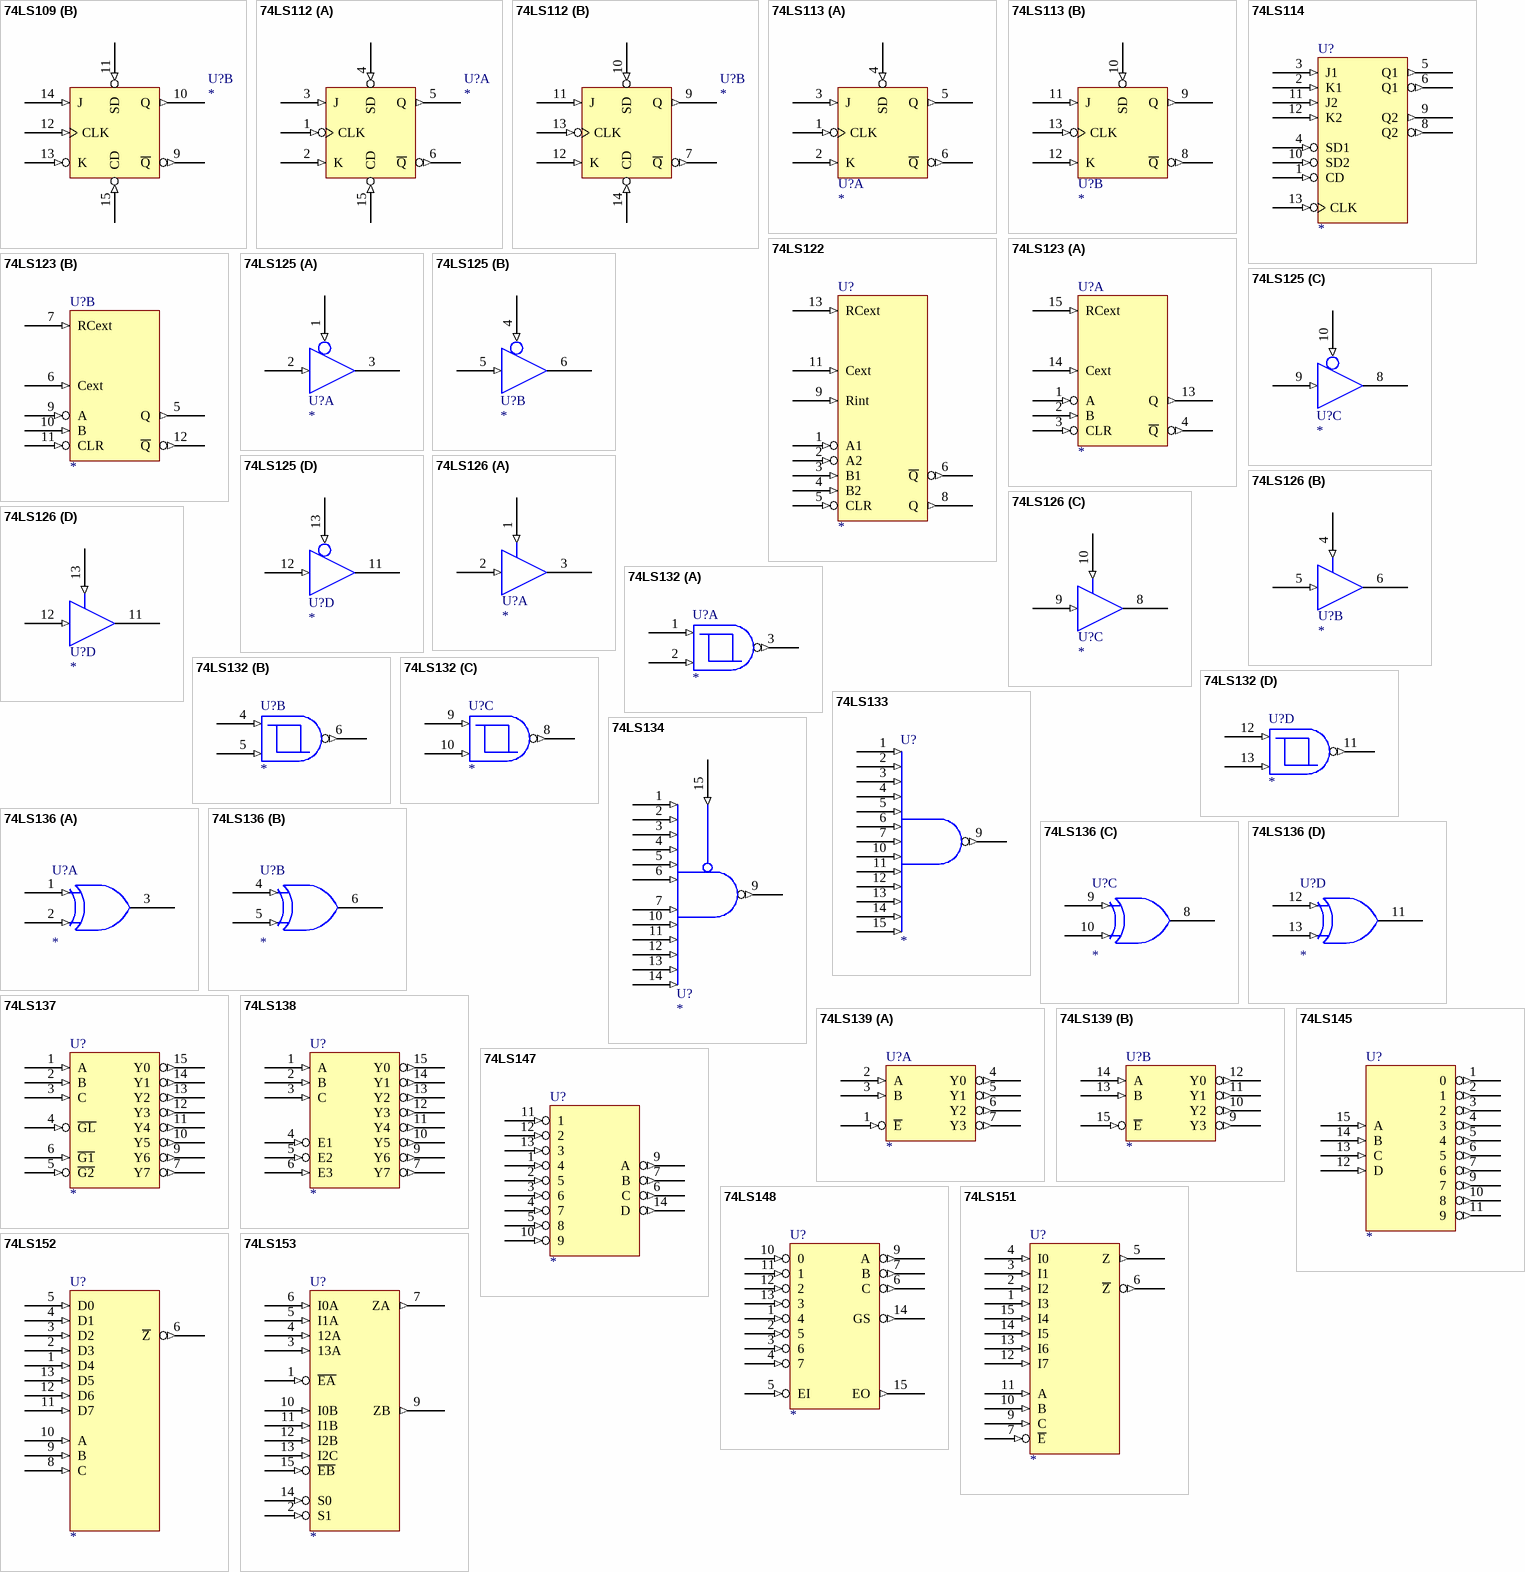
[diagram p29: symbols 74LS109 to 74LS153]

## 74LS109
designator U?
footprint DIP-16
part A pins: 1 CD (in), 2 J (in), 3 K (in), 4 CLK (in), 5 SD (in), 6 Q (out), 7 ~{Q} (out), 8 GND (power) hidden to GND, 16 VCC (power) hidden to VCC
part B pins: 8 GND (power) hidden to GND, 9 ~{Q} (out), 10 Q (out), 11 SD (in), 12 CLK (in), 13 K (in), 14 J (in), 15 CD (in), 16 VCC (power) hidden to VCC

## 74LS112
designator U?
footprint DIP-16
part A pins: 1 CLK (in), 2 K (in), 3 J (in), 4 SD (in), 5 Q (out), 6 ~{Q} (out), 8 GND (power) hidden to GND, 15 CD (in), 16 VCC (power) hidden to VCC
part B pins: 7 ~{Q} (out), 8 GND (power) hidden to GND, 9 Q (out), 10 SD (in), 11 J (in), 12 K (in), 13 CLK (in), 14 CD (in), 16 VCC (power) hidden to VCC

## 74LS113
designator U?
footprint DIP-14
part A pins: 1 CLK (in), 2 K (in), 3 J (in), 4 SD (in), 5 Q (out), 6 ~{Q} (out), 7 GND (power) hidden to GND, 14 VCC (power) hidden to VCC
part B pins: 7 GND (power) hidden to GND, 8 ~{Q} (out), 9 Q (out), 10 SD (in), 11 J (in), 12 K (in), 13 CLK (in), 14 VCC (power) hidden to VCC

## 74LS114
designator U?
footprint DIP-14
pins: 1 CD (in), 2 K1 (in), 3 J1 (in), 4 SD1 (in), 5 Q1 (out), 6 Q1 (out), 7 GND (power) hidden to GND, 8 Q2 (out), 9 Q2 (out), 10 SD2 (in), 11 J2 (in), 12 K2 (in), 13 CLK (in), 14 VCC (power) hidden to VCC

## 74LS122
designator U?
footprint DIP-14
pins: 1 A1 (in), 2 A2 (in), 3 B1 (in), 4 B2 (in), 5 CLR (in), 6 ~{Q} (out), 7 GND (power) hidden to GND, 8 Q (out), 9 Rint (in), 11 Cext (in), 13 RCext (in), 14 VCC (power) hidden to VCC

## 74LS123
designator U?
footprint DIP-16
part A pins: 1 A (in), 2 B (in), 3 CLR (in), 4 ~{Q} (out), 8 GND (power) hidden to GND, 13 Q (out), 14 Cext (in), 15 RCext (in), 16 VCC (power) hidden to VCC
part B pins: 5 Q (out), 6 Cext (in), 7 RCext (in), 8 GND (power) hidden to GND, 9 A (in), 10 B (in), 11 CLR (in), 12 ~{Q} (out), 16 VCC (power) hidden to VCC

## 74LS125
designator U?
footprint DIP-14
part A pins: 1 (in), 2 (in), 3 (hiz), 7 GND (power) hidden to GND, 14 VCC (power) hidden to VCC
part B pins: 4 (in), 5 (in), 6 (hiz), 7 GND (power) hidden to GND, 14 VCC (power) hidden to VCC
part C pins: 7 GND (power) hidden to GND, 8 (hiz), 9 (in), 10 (in), 14 VCC (power) hidden to VCC
part D pins: 7 GND (power) hidden to GND, 11 (hiz), 12 (in), 13 (in), 14 VCC (power) hidden to VCC

## 74LS126
designator U?
footprint DIP-14
part A pins: 1 (in), 2 (in), 3 (hiz), 7 GND (power) hidden to GND, 14 VCC (power) hidden to VCC
part B pins: 4 (in), 5 (in), 6 (hiz), 7 GND (power) hidden to GND, 14 VCC (power) hidden to VCC
part C pins: 7 GND (power) hidden to GND, 8 (hiz), 9 (in), 10 (in), 14 VCC (power) hidden to VCC
part D pins: 7 GND (power) hidden to GND, 11 (hiz), 12 (in), 13 (in), 14 VCC (power) hidden to VCC

## 74LS132
designator U?
footprint DIP-14
part A pins: 1 (in), 2 (in), 3 (out), 7 GND (power) hidden to GND, 14 VCC (power) hidden to VCC
part B pins: 4 (in), 5 (in), 6 (out), 7 GND (power) hidden to GND, 14 VCC (power) hidden to VCC
part C pins: 7 GND (power) hidden to GND, 8 (out), 9 (in), 10 (in), 14 VCC (power) hidden to VCC
part D pins: 7 GND (power) hidden to GND, 11 (out), 12 (in), 13 (in), 14 VCC (power) hidden to VCC

## 74LS133
designator U?
footprint DIP-16
pins: 1 (in), 2 (in), 3 (in), 4 (in), 5 (in), 6 (in), 7 (in), 8 GND (power) hidden to GND, 9 (out), 10 (in), 11 (in), 12 (in), 13 (in), 14 (in), 15 (in), 16 VCC (power) hidden to VCC

## 74LS134
designator U?
footprint DIP-16
pins: 1 (in), 2 (in), 3 (in), 4 (in), 5 (in), 6 (in), 7 (in), 8 GND (power) hidden to GND, 9 (out), 10 (in), 11 (in), 12 (in), 13 (in), 14 (in), 15 (in), 16 VCC (power) hidden to VCC

## 74LS136
designator U?
footprint DIP-14
part A pins: 1 (in), 2 (in), 3 (oc), 7 GND (power) hidden to GND, 14 VCC (power) hidden to VCC
part B pins: 4 (in), 5 (in), 6 (oc), 7 GND (power) hidden to GND, 14 VCC (power) hidden to VCC
part C pins: 7 GND (power) hidden to GND, 8 (oc), 9 (in), 10 (in), 14 VCC (power) hidden to VCC
part D pins: 7 GND (power) hidden to GND, 11 (oc), 12 (in), 13 (in), 14 VCC (power) hidden to VCC

## 74LS137
designator U?
footprint DIP-16
pins: 1 A (in), 2 B (in), 3 C (in), 4 ~{GL} (in), 5 ~{G2} (in), 6 ~{G1} (in), 7 Y7 (out), 8 GND (power) hidden to GND, 9 Y6 (out), 10 Y5 (out), 11 Y4 (out), 12 Y3 (out), 13 Y2 (out), 14 Y1 (out), 15 Y0 (out), 16 VCC (power) hidden to VCC

## 74LS138
designator U?
footprint DIP-16
pins: 1 A (in), 2 B (in), 3 C (in), 4 E1 (in), 5 E2 (in), 6 E3 (in), 7 Y7 (out), 8 GND (power) hidden to GND, 9 Y6 (out), 10 Y5 (out), 11 Y4 (out), 12 Y3 (out), 13 Y2 (out), 14 Y1 (out), 15 Y0 (out), 16 VCC (power) hidden to VCC

## 74LS139
designator U?
footprint DIP-16
part A pins: 1 ~{E} (in), 2 A (in), 3 B (in), 4 Y0 (out), 5 Y1 (out), 6 Y2 (out), 7 Y3 (out), 8 GND (power) hidden to GND, 16 VCC (power) hidden to VCC
part B pins: 8 GND (power) hidden to GND, 9 Y3 (out), 10 Y2 (out), 11 Y1 (out), 12 Y0 (out), 13 B (in), 14 A (in), 15 ~{E} (in), 16 VCC (power) hidden to VCC

## 74LS145
designator U?
footprint DIP-16
pins: 1 0 (out), 2 1 (out), 3 2 (out), 4 3 (out), 5 4 (out), 6 5 (out), 7 6 (out), 8 GND (power) hidden to GND, 9 7 (out), 10 8 (out), 11 9 (out), 12 D (in), 13 C (in), 14 B (in), 15 A (in), 16 VCC (power) hidden to VCC

## 74LS147
designator U?
footprint DIP-16
pins: 1 4 (in), 2 5 (in), 3 6 (in), 4 7 (in), 5 8 (in), 6 C (out), 7 B (out), 8 GND (power) hidden to GND, 9 A (out), 10 9 (in), 11 1 (in), 12 2 (in), 13 3 (in), 14 D (out), 16 VCC (power) hidden to VCC

## 74LS148
designator U?
footprint DIP-16
pins: 1 4 (in), 2 5 (in), 3 6 (in), 4 7 (in), 5 EI (in), 6 C (out), 7 B (out), 8 GND (power) hidden to GND, 9 A (out), 10 0 (in), 11 1 (in), 12 2 (in), 13 3 (in), 14 GS (out), 15 EO (out), 16 VCC (power) hidden to VCC

## 74LS151
designator U?
footprint DIP-16
pins: 1 I3 (in), 2 I2 (in), 3 I1 (in), 4 I0 (in), 5 Z (out), 6 ~{Z} (out), 7 ~{E} (in), 8 GND (power) hidden to GND, 9 C (in), 10 B (in), 11 A (in), 12 I7 (in), 13 I6 (in), 14 I5 (in), 15 I4 (in), 16 VCC (power) hidden to VCC

## 74LS152
designator U?
footprint DIP-14
pins: 1 D4 (in), 2 D3 (in), 3 D2 (in), 4 D1 (in), 5 D0 (in), 6 ~{Z} (out), 7 GND (power) hidden to GND, 8 C (in), 9 B (in), 10 A (in), 11 D7 (in), 12 D6 (in), 13 D5 (in), 14 VCC (power) hidden to VCC

## 74LS153
designator U?
footprint DIP-16
pins: 1 ~{EA} (in), 2 S1 (in), 3 13A (in), 4 12A (in), 5 I1A (in), 6 I0A (in), 7 ZA (out), 8 GND (power) hidden to GND, 9 ZB (out), 10 I0B (in), 11 I1B (in), 12 I2B (in), 13 I2C (in), 14 S0 (in), 15 ~{EB} (in), 16 VCC (power) hidden to VCC

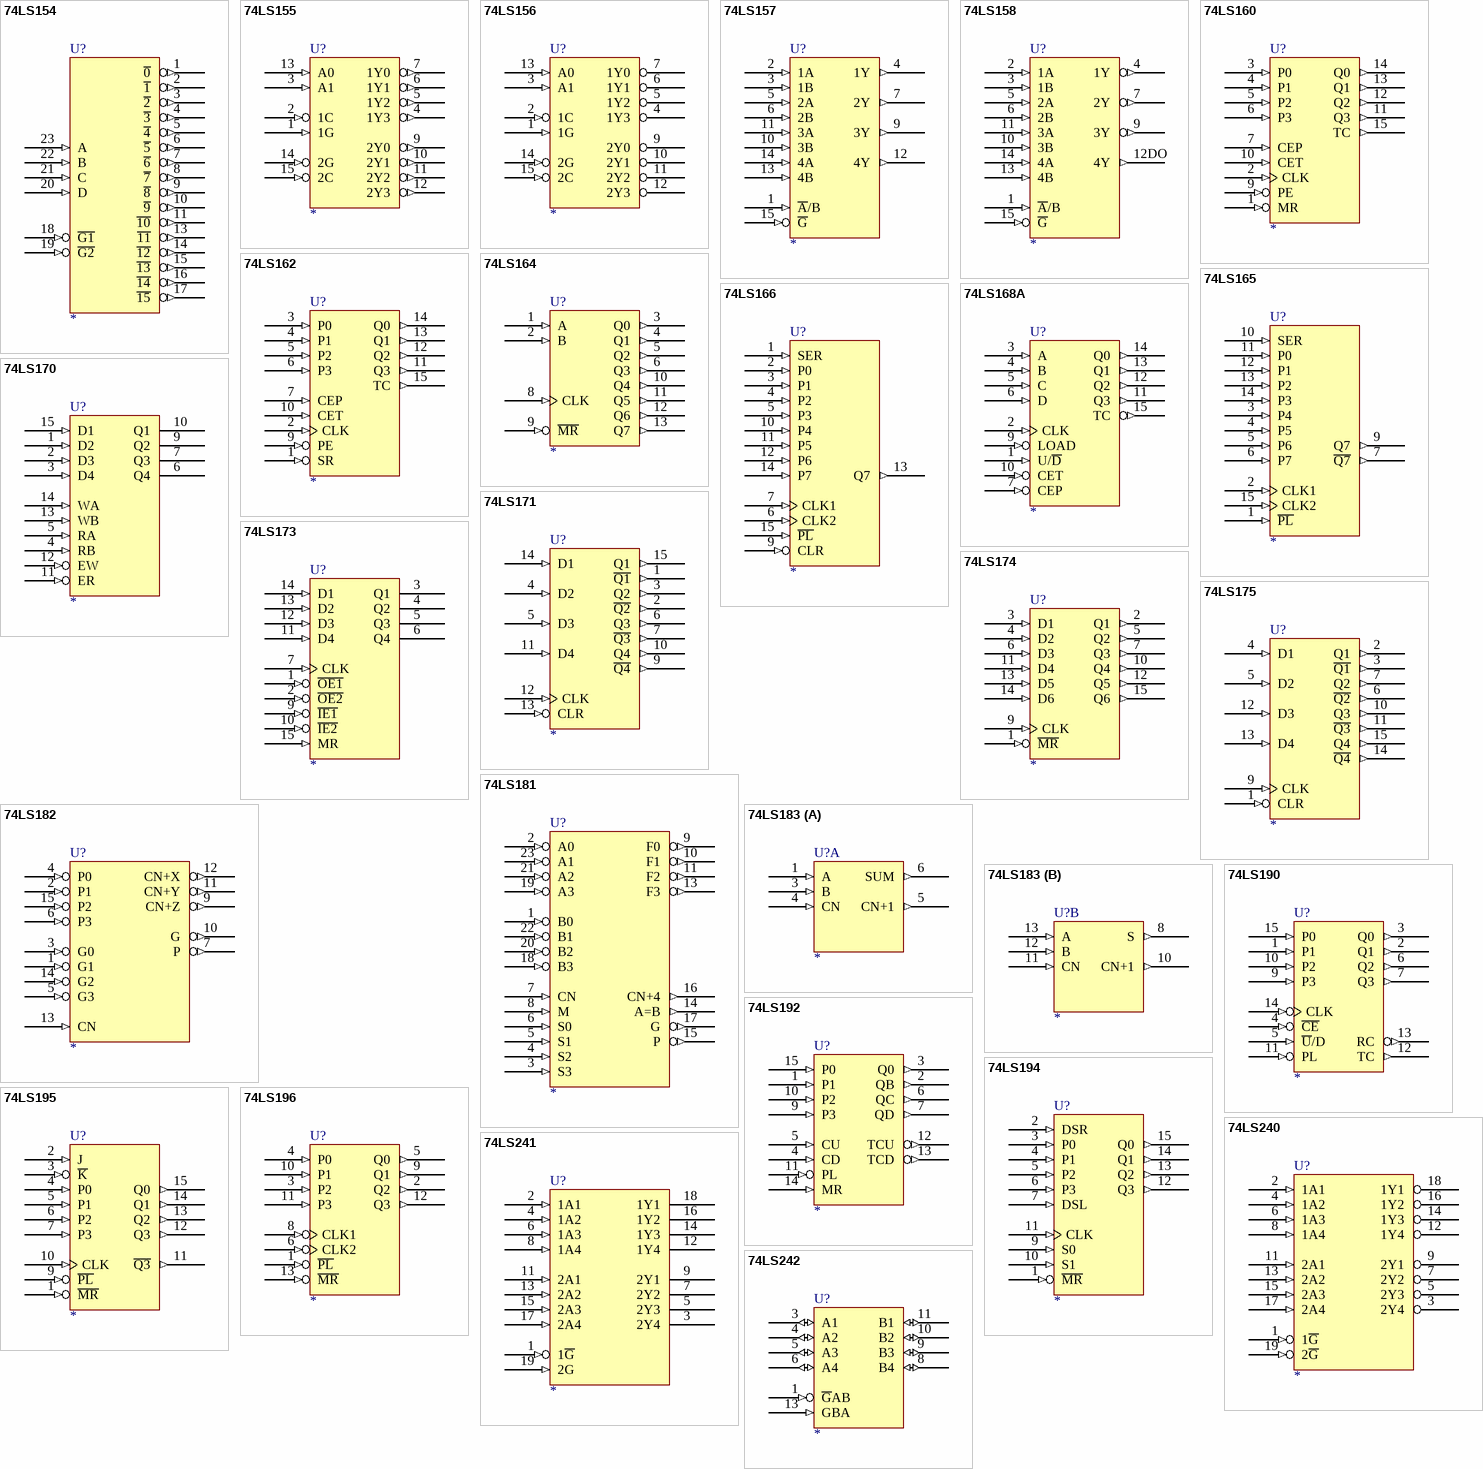
[diagram p30: symbols 74LS154 to 74LS242]

## 74LS154
designator U?
footprint DIP-24
pins: 1 ~{0} (out), 2 ~{1} (out), 3 ~{2} (out), 4 ~{3} (out), 5 ~{4} (out), 6 ~{5} (out), 7 ~{6} (out), 8 ~{7} (out), 9 ~{8} (out), 10 ~{9} (out), 11 ~{10} (out), 12 GND (power) hidden to GND, 13 ~{11} (out), 14 ~{12} (out), 15 ~{13} (out), 16 ~{14} (out), 17 ~{15} (out), 18 ~{G1} (in), 19 ~{G2} (in), 20 D (in), 21 C (in), 22 B (in), 23 A (in), 24 VCC (power) hidden to VCC

## 74LS155
designator U?
footprint DIP-16
pins: 1 1G (in), 2 1C (in), 3 A1 (in), 4 1Y3 (out), 5 1Y2 (out), 6 1Y1 (out), 7 1Y0 (out), 8 GND (power) hidden to GND, 9 2Y0 (out), 10 2Y1 (out), 11 2Y2 (out), 12 2Y3 (out), 13 A0 (in), 14 2G (in), 15 2C (in), 16 VCC (power) hidden to VCC

## 74LS156
designator U?
footprint DIP-16
pins: 1 1G (in), 2 1C (in), 3 A1 (in), 4 1Y3 (oc), 5 1Y2 (oc), 6 1Y1 (oc), 7 1Y0 (oc), 8 GND (power) hidden to GND, 9 2Y0 (oc), 10 2Y1 (oc), 11 2Y2 (oc), 12 2Y3 (oc), 13 A0 (in), 14 2G (in), 15 2C (in), 16 VCC (power) hidden to VCC

## 74LS157
designator U?
footprint DIP-16
pins: 1 ~{A}/B (in), 2 1A (in), 3 1B (in), 4 1Y (out), 5 2A (in), 6 2B (in), 7 2Y (out), 8 GND (power) hidden to GND, 9 3Y (out), 10 3B (in), 11 3A (in), 12 4Y (out), 13 4B (in), 14 4A (in), 15 ~{G} (in), 16 VCC (power) hidden to VCC

## 74LS158
designator U?
footprint DIP-16
pins: 1 ~{A}/B (in), 2 1A (in), 3 1B (in), 4 1Y (out), 5 2A (in), 6 2B (in), 7 2Y (out), 8 GND (power) hidden to GND, 9 3Y (out), 10 3B (in), 11 3A (in), 12DO 4Y (out), 13 4B (in), 14 4A (in), 15 ~{G} (in), 16 VCC (power) hidden to VCC

## 74LS160
designator U?
footprint DIP-16
pins: 1 MR (in), 2 CLK (in), 3 P0 (in), 4 P1 (in), 5 P2 (in), 6 P3 (in), 7 CEP (in), 8 GND (power) hidden to GND, 9 PE (in), 10 CET (in), 11 Q3 (out), 12 Q2 (out), 13 Q1 (out), 14 Q0 (out), 15 TC (out), 16 VCC (power) hidden to VCC

## 74LS162
designator U?
footprint DIP-16
pins: 1 SR (in), 2 CLK (in), 3 P0 (in), 4 P1 (in), 5 P2 (in), 6 P3 (in), 7 CEP (in), 8 GND (power) hidden to GND, 9 PE (in), 10 CET (in), 11 Q3 (out), 12 Q2 (out), 13 Q1 (out), 14 Q0 (out), 15 TC (out), 16 VCC (power) hidden to VCC

## 74LS164
designator U?
footprint DIP-14
pins: 1 A (in), 2 B (in), 3 Q0 (out), 4 Q1 (out), 5 Q2 (out), 6 Q3 (out), 7 GND (power) hidden to GND, 8 CLK (in), 9 ~{MR} (in), 10 Q4 (out), 11 Q5 (out), 12 Q6 (out), 13 Q7 (out), 14 VCC (power) hidden to VCC

## 74LS165
designator U?
footprint DIP-16
pins: 1 ~{PL} (in), 2 CLK1 (in), 3 P4 (in), 4 P5 (in), 5 P6 (in), 6 P7 (in), 7 ~{Q7} (out), 8 GND (power) hidden to GND, 9 Q7 (out), 10 SER (in), 11 P0 (in), 12 P1 (in), 13 P2 (in), 14 P3 (in), 15 CLK2 (in), 16 VCC (power) hidden to VCC

## 74LS166
designator U?
footprint DIP-16
pins: 1 SER (in), 2 P0 (in), 3 P1 (in), 4 P2 (in), 5 P3 (in), 6 CLK2 (in), 7 CLK1 (in), 8 GND (power) hidden to GND, 9 CLR (in), 10 P4 (in), 11 P5 (in), 12 P6 (in), 13 Q7 (out), 14 P7 (in), 15 ~{PL} (in), 16 VCC (power) hidden to VCC

## 74LS168A
designator U?
Synchronous 4-Bit Up/Down Decade Counter
pins: 1 U/~{D} (in), 2 CLK (in), 3 A (in), 4 B (in), 5 C (in), 6 D (in), 7 CEP (in), 8 GND (power) hidden to GND, 9 LOAD (in), 10 CET (in), 11 Q3 (out), 12 Q2 (out), 13 Q1 (out), 14 Q0 (out), 15 TC (out), 16 VCC (power) hidden to VCC

## 74LS170
designator U?
footprint DIP-16
pins: 1 D2 (in), 2 D3 (in), 3 D4 (in), 4 RB (in), 5 RA (in), 6 Q4 (oc), 7 Q3 (oc), 8 GND (power) hidden to GND, 9 Q2 (oc), 10 Q1 (oc), 11 ER (in), 12 EW (in), 13 WB (in), 14 WA (in), 15 D1 (in), 16 VCC (power) hidden to VCC

## 74LS171
designator U?
footprint DIP-16
pins: 1 ~{Q1} (out), 2 ~{Q2} (out), 3 Q2 (out), 4 D2 (in), 5 D3 (in), 6 Q3 (out), 7 ~{Q3} (out), 8 GND (power) hidden to GND, 9 ~{Q4} (out), 10 Q4 (out), 11 D4 (in), 12 CLK (in), 13 CLR (in), 14 D1 (in), 15 Q1 (out), 16 VCC (power) hidden to VCC

## 74LS173
designator U?
footprint DIP-16
pins: 1 ~{OE1} (in), 2 ~{OE2} (in), 3 Q1 (hiz), 4 Q2 (hiz), 5 Q3 (hiz), 6 Q4 (hiz), 7 CLK (in), 8 GND (power) hidden to GND, 9 ~{IE1} (in), 10 ~{IE2} (in), 11 D4 (in), 12 D3 (in), 13 D2 (in), 14 D1 (in), 15 MR (in), 16 VCC (power) hidden to VCC

## 74LS174
designator U?
footprint DIP-16
pins: 1 ~{MR} (in), 2 Q1 (out), 3 D1 (in), 4 D2 (in), 5 Q2 (out), 6 D3 (in), 7 Q3 (out), 8 GND (power) hidden to GND, 9 CLK (in), 10 Q4 (out), 11 D4 (in), 12 Q5 (out), 13 D5 (in), 14 D6 (in), 15 Q6 (out), 16 VCC (power) hidden to VCC

## 74LS175
designator U?
footprint DIP-16
pins: 1 CLR (in), 2 Q1 (out), 3 ~{Q1} (out), 4 D1 (in), 5 D2 (in), 6 ~{Q2} (out), 7 Q2 (out), 8 GND (power) hidden to GND, 9 CLK (in), 10 Q3 (out), 11 ~{Q3} (out), 12 D3 (in), 13 D4 (in), 14 ~{Q4} (out), 15 Q4 (out), 16 VCC (power) hidden to VCC

## 74LS181
designator U?
footprint DIP-24
pins: 1 B0 (in), 2 A0 (in), 3 S3 (in), 4 S2 (in), 5 S1 (in), 6 S0 (in), 7 CN (in), 8 M (in), 9 F0 (out), 10 F1 (out), 11 F2 (out), 12 GND (power) hidden to GND, 13 F3 (out), 14 A=B (out), 15 P (out), 16 CN+4 (out), 17 G (out), 18 B3 (in), 19 A3 (in), 20 B2 (in), 21 A2 (in), 22 B1 (in), 23 A1 (in), 24 VCC (power) hidden to VCC

## 74LS182
designator U?
footprint DIP-16
pins: 1 G1 (in), 2 P1 (in), 3 G0 (in), 4 P0 (in), 5 G3 (in), 6 P3 (in), 7 P (out), 8 GND (power) hidden to GND, 9 CN+Z (out), 10 G (out), 11 CN+Y (out), 12 CN+X (out), 13 CN (in), 14 G2 (in), 15 P2 (in), 16 VCC (power) hidden to VCC

## 74LS183
designator U?
footprint DIP-14
part A pins: 1 A (in), 3 B (in), 4 CN (in), 5 CN+1 (out), 6 SUM (out), 7 GND (power) hidden to GND, 14 VCC (power) hidden to VCC
part B pins: 7 GND (power) hidden to GND, 8 S (out), 10 CN+1 (out), 11 CN (in), 12 B (in), 13 A (in), 14 VCC (power) hidden to VCC

## 74LS190
designator U?
footprint DIP-16
pins: 1 P1 (in), 2 Q1 (out), 3 Q0 (out), 4 ~{CE} (in), 5 ~{U}/D (in), 6 Q2 (out), 7 Q3 (out), 8 GND (power) hidden to GND, 9 P3 (in), 10 P2 (in), 11 PL (in), 12 TC (out), 13 RC (out), 14 CLK (in), 15 P0 (in), 16 VCC (power) hidden to VCC

## 74LS192
designator U?
footprint DIP-16
pins: 1 P1 (in), 2 QB (out), 3 Q0 (out), 4 CD (in), 5 CU (in), 6 QC (out), 7 QD (out), 8 GND (power) hidden to GND, 9 P3 (in), 10 P2 (in), 11 PL (in), 12 TCU (out), 13 TCD (out), 14 MR (in), 15 P0 (in), 16 VCC (power) hidden to VCC

## 74LS194
designator U?
footprint DIP-16
pins: 1 ~{MR} (in), 2 DSR (in), 3 P0 (in), 4 P1 (in), 5 P2 (in), 6 P3 (in), 7 DSL (in), 8 GND (power) hidden to GND, 9 S0 (in), 10 S1 (in), 11 CLK (in), 12 Q3 (out), 13 Q2 (out), 14 Q1 (out), 15 Q0 (out), 16 VCC (power) hidden to VCC

## 74LS195
designator U?
footprint DIP-16
pins: 1 ~{MR} (in), 2 J (in), 3 ~{K} (in), 4 P0 (in), 5 P1 (in), 6 P2 (in), 7 P3 (in), 8 GND (power) hidden to GND, 9 ~{PL} (in), 10 CLK (in), 11 ~{Q3} (out), 12 Q3 (out), 13 Q2 (out), 14 Q1 (out), 15 Q0 (out), 16 VCC (power) hidden to VCC

## 74LS196
designator U?
footprint DIP-16
pins: 1 ~{PL} (in), 2 Q2 (out), 3 P2 (in), 4 P0 (in), 5 Q0 (out), 6 CLK2 (in), 7 GND (power) hidden to GND, 8 CLK1 (in), 9 Q1 (out), 10 P1 (in), 11 P3 (in), 12 Q3 (out), 13 ~{MR} (in), 14 VCC (power) hidden to VCC

## 74LS240
designator U?
footprint DIP-16
pins: 1 1~{G} (in), 2 1A1 (in), 3 2Y4 (hiz), 4 1A2 (in), 5 2Y3 (hiz), 6 1A3 (in), 7 2Y2 (hiz), 8 1A4 (in), 9 2Y1 (hiz), 10 GND (power) hidden to GND, 11 2A1 (in), 12 1Y4 (hiz), 13 2A2 (in), 14 1Y3 (hiz), 15 2A3 (in), 16 1Y2 (hiz), 17 2A4 (in), 18 1Y1 (hiz), 19 2~{G} (in), 20 VCC (power) hidden to VCC

## 74LS241
designator U?
footprint DIP-20
pins: 1 1~{G} (in), 2 1A1 (in), 3 2Y4 (hiz), 4 1A2 (in), 5 2Y3 (hiz), 6 1A3 (in), 7 2Y2 (hiz), 8 1A4 (in), 9 2Y1 (hiz), 10 GND (power) hidden to GND, 11 2A1 (in), 12 1Y4 (hiz), 13 2A2 (in), 14 1Y3 (hiz), 15 2A3 (in), 16 1Y2 (hiz), 17 2A4 (in), 18 1Y1 (hiz), 19 2G (in), 20 VCC (power) hidden to VCC

## 74LS242
designator U?
footprint DIP-14
pins: 1 ~{G}AB (in), 3 A1 (io), 4 A2 (io), 5 A3 (io), 6 A4 (io), 7 GND (power) hidden to GND, 8 B4 (io), 9 B3 (io), 10 B2 (io), 11 B1 (io), 13 GBA (in), 14 VCC (power) hidden to VCC

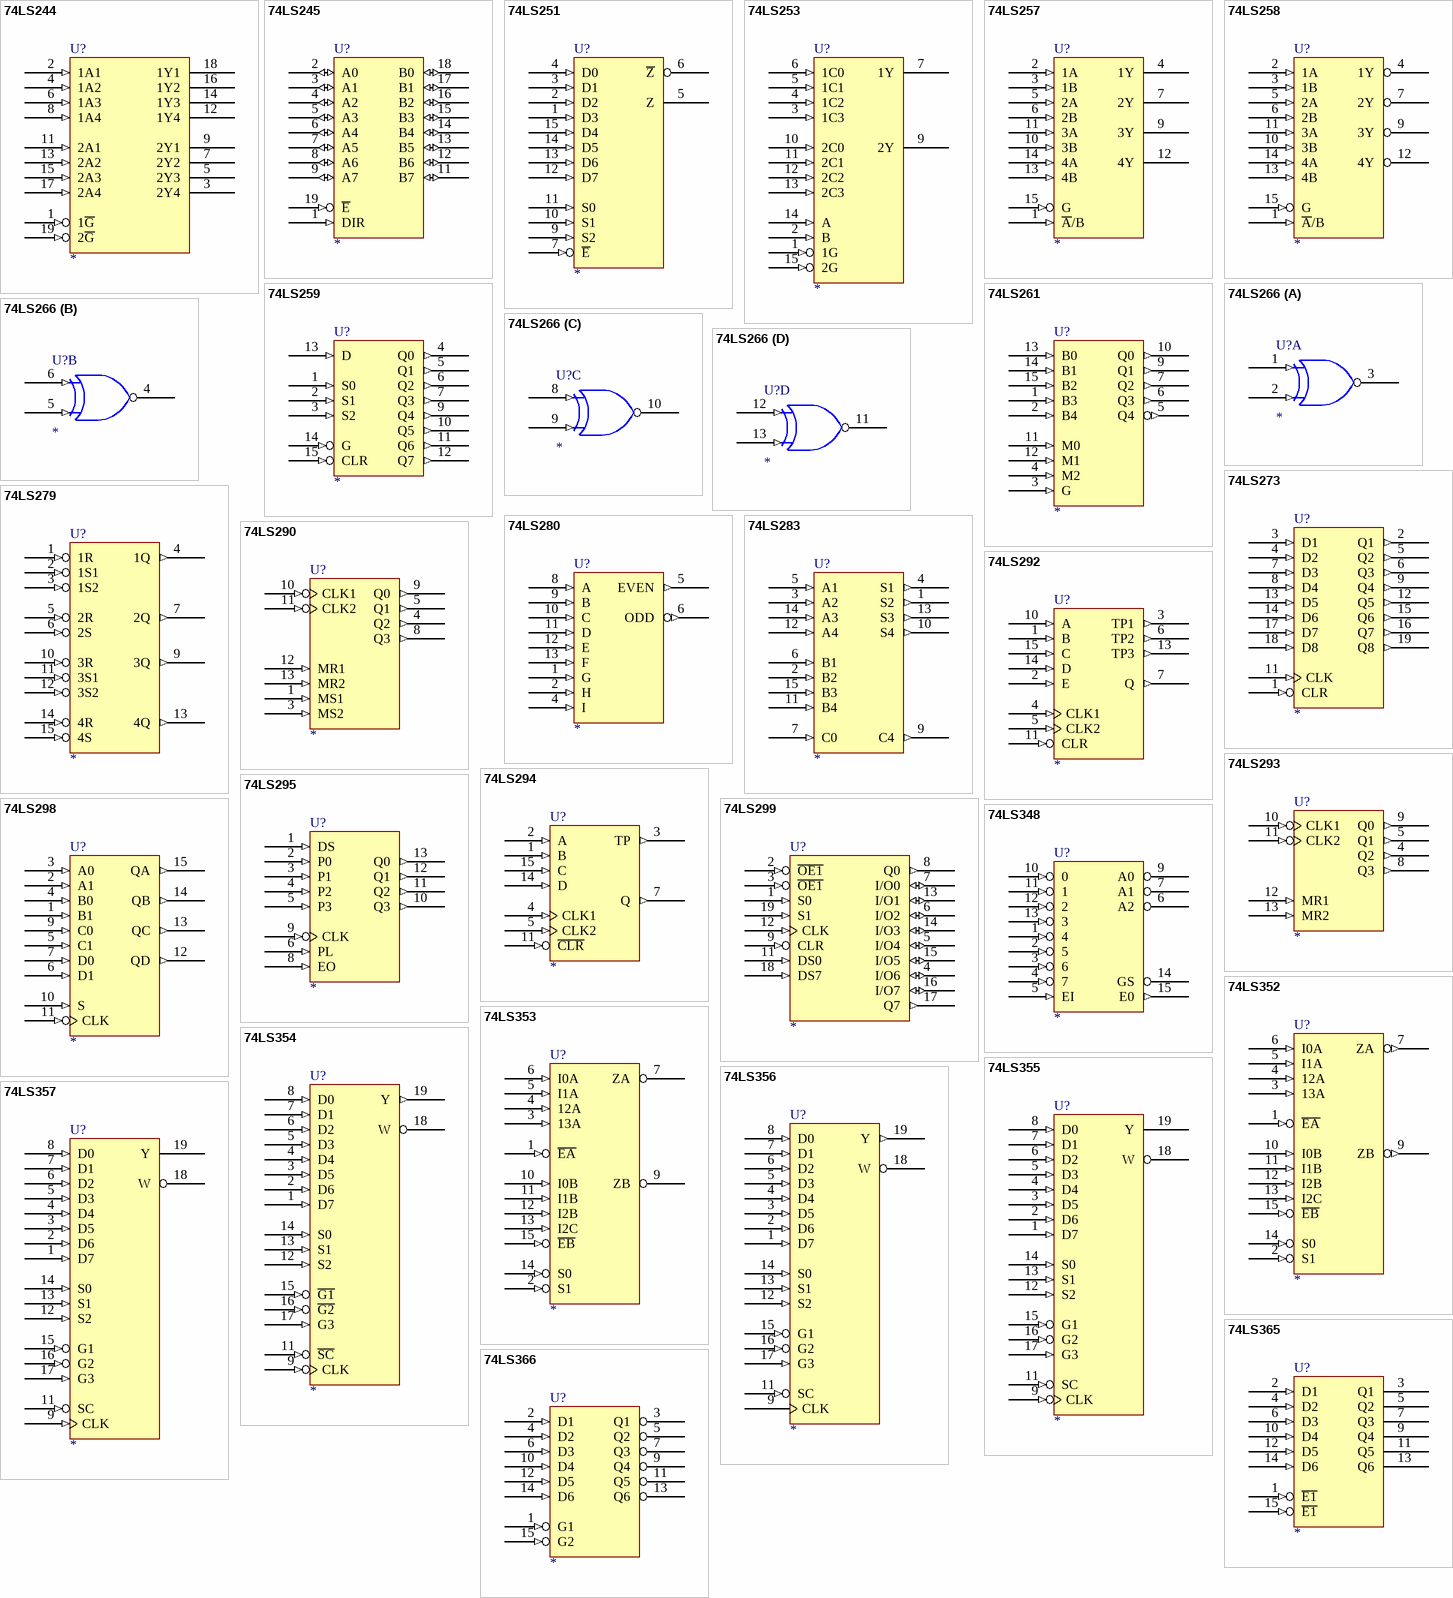
[diagram p31: symbols 74LS244 to 74LS366]

## 74LS244
designator U?
footprint DIP-20
pins: 1 1~{G} (in), 2 1A1 (in), 3 2Y4 (hiz), 4 1A2 (in), 5 2Y3 (hiz), 6 1A3 (in), 7 2Y2 (hiz), 8 1A4 (in), 9 2Y1 (hiz), 10 GND (power) hidden to GND, 11 2A1 (in), 12 1Y4 (hiz), 13 2A2 (in), 14 1Y3 (hiz), 15 2A3 (in), 16 1Y2 (hiz), 17 2A4 (in), 18 1Y1 (hiz), 19 2~{G} (in), 20 VCC (power) hidden to VCC

## 74LS245
designator U?
footprint DIP-20
pins: 1 DIR (in), 2 A0 (io), 3 A1 (io), 4 A2 (io), 5 A3 (io), 6 A4 (io), 7 A5 (io), 8 A6 (io), 9 A7 (io), 10 GND (power) hidden to GND, 11 B7 (io), 12 B6 (io), 13 B5 (io), 14 B4 (io), 15 B3 (io), 16 B2 (io), 17 B1 (io), 18 B0 (io), 19 ~{E} (in), 20 VCC (power) hidden to VCC

## 74LS251
designator U?
footprint DIP-16
pins: 1 D3 (in), 2 D2 (in), 3 D1 (in), 4 D0 (in), 5 Z (hiz), 6 ~{Z} (hiz), 7 ~{E} (in), 8 GND (power) hidden to GND, 9 S2 (in), 10 S1 (in), 11 S0 (in), 12 D7 (in), 13 D6 (in), 14 D5 (in), 15 D4 (in), 16 VCC (power) hidden to VCC

## 74LS253
designator U?
footprint DIP-16
pins: 1 1G (in), 2 B (in), 3 1C3 (in), 4 1C2 (in), 5 1C1 (in), 6 1C0 (in), 7 1Y (hiz), 8 GND (power) hidden to GND, 9 2Y (hiz), 10 2C0 (in), 11 2C1 (in), 12 2C2 (in), 13 2C3 (in), 14 A (in), 15 2G (in), 16 VCC (power) hidden to VCC

## 74LS257
designator U?
footprint DIP-16
pins: 1 ~{A}/B (in), 2 1A (in), 3 1B (in), 4 1Y (hiz), 5 2A (in), 6 2B (in), 7 2Y (hiz), 8 GND (power) hidden to GND, 9 3Y (hiz), 10 3B (in), 11 3A (in), 12 4Y (hiz), 13 4B (in), 14 4A (in), 15 G (in), 16 VCC (power) hidden to VCC

## 74LS258
designator U?
footprint DIP-16
pins: 1 ~{A}/B (in), 2 1A (in), 3 1B (in), 4 1Y (hiz), 5 2A (in), 6 2B (in), 7 2Y (hiz), 8 GND (power) hidden to GND, 9 3Y (hiz), 10 3B (in), 11 3A (in), 12 4Y (hiz), 13 4B (in), 14 4A (in), 15 G (in), 16 VCC (power) hidden to VCC

## 74LS259
designator U?
footprint DIP-16
pins: 1 S0 (in), 2 S1 (in), 3 S2 (in), 4 Q0 (out), 5 Q1 (out), 6 Q2 (out), 7 Q3 (out), 8 GND (power) hidden to GND, 9 Q4 (out), 10 Q5 (out), 11 Q6 (out), 12 Q7 (out), 13 D (in), 14 G (in), 15 CLR (in), 16 VCC (power) hidden to VCC

## 74LS261
designator U?
footprint DIP-16
pins: 1 B3 (in), 2 B4 (in), 3 G (in), 4 M2 (in), 5 Q4 (out), 6 Q3 (out), 7 Q2 (out), 8 GND (power) hidden to GND, 9 Q1 (out), 10 Q0 (out), 11 M0 (in), 12 M1 (in), 13 B0 (in), 14 B1 (in), 15 B2 (in), 16 VCC (power) hidden to VCC

## 74LS266
designator U?
footprint DIP-14
part A pins: 1 (in), 2 (in), 3 (oc), 7 GND (power) hidden to GND, 14 VCC (power) hidden to VCC
part B pins: 4 (oc), 5 (in), 6 (in), 7 GND (power) hidden to GND, 14 VCC (power) hidden to VCC
part C pins: 7 GND (power) hidden to GND, 8 (in), 9 (in), 10 (oc), 14 VCC (power) hidden to VCC
part D pins: 7 GND (power) hidden to GND, 11 (oc), 12 (in), 13 (in), 14 VCC (power) hidden to VCC

## 74LS273
designator U?
footprint DIP-20
pins: 1 CLR (in), 2 Q1 (out), 3 D1 (in), 4 D2 (in), 5 Q2 (out), 6 Q3 (out), 7 D3 (in), 8 D4 (in), 9 Q4 (out), 10 GND (power) hidden to GND, 11 CLK (in), 12 Q5 (out), 13 D5 (in), 14 D6 (in), 15 Q6 (out), 16 Q7 (out), 17 D7 (in), 18 D8 (in), 19 Q8 (out), 20 VCC (power) hidden to VCC

## 74LS279
designator U?
footprint DIP-16
pins: 1 1R (in), 2 1S1 (in), 3 1S2 (in), 4 1Q (out), 5 2R (in), 6 2S (in), 7 2Q (out), 8 GND (power) hidden to GND, 9 3Q (out), 10 3R (in), 11 3S1 (in), 12 3S2 (in), 13 4Q (out), 14 4R (in), 15 4S (in), 16 VCC (power) hidden to VCC

## 74LS280
designator U?
footprint DIP-14
pins: 1 G (in), 2 H (in), 4 I (in), 5 EVEN (out), 6 ODD (out), 7 GND (power) hidden to GND, 8 A (in), 9 B (in), 10 C (in), 11 D (in), 12 E (in), 13 F (in), 14 VCC (power) hidden to VCC

## 74LS283
designator U?
footprint DIP-16
pins: 1 S2 (out), 2 B2 (in), 3 A2 (in), 4 S1 (out), 5 A1 (in), 6 B1 (in), 7 C0 (in), 8 GND (power) hidden to GND, 9 C4 (out), 10 S4 (out), 11 B4 (in), 12 A4 (in), 13 S3 (out), 14 A3 (in), 15 B3 (in), 16 VCC (power) hidden to VCC

## 74LS290
designator U?
footprint DIP-14
pins: 1 MS1 (in), 3 MS2 (in), 4 Q2 (out), 5 Q1 (out), 7 GND (power) hidden to GND, 8 Q3 (out), 9 Q0 (out), 10 CLK1 (in), 11 CLK2 (in), 12 MR1 (in), 13 MR2 (in), 14 VCC (power) hidden to VCC

## 74LS292
designator U?
footprint DIP-16
pins: 1 B (in), 2 E (in), 3 TP1 (out), 4 CLK1 (in), 5 CLK2 (in), 6 TP2 (out), 7 Q (out), 8 GND (power) hidden to GND, 10 A (in), 11 CLR (in), 13 TP3 (out), 14 D (in), 15 C (in), 16 VCC (power) hidden to VCC

## 74LS293
designator U?
footprint DIP-14
pins: 4 Q2 (out), 5 Q1 (out), 7 GND (power) hidden to GND, 8 Q3 (out), 9 Q0 (out), 10 CLK1 (in), 11 CLK2 (in), 12 MR1 (in), 13 MR2 (in), 14 VCC (power) hidden to VCC

## 74LS294
designator U?
footprint DIP-16
pins: 1 B (in), 2 A (in), 3 TP (out), 4 CLK1 (in), 5 CLK2 (in), 7 Q (out), 8 GND (power) hidden to GND, 11 ~{CLR} (in), 14 D (in), 15 C (in), 16 VCC (power) hidden to VCC

## 74LS295
designator U?
footprint DIP-14
pins: 1 DS (in), 2 P0 (in), 3 P1 (in), 4 P2 (in), 5 P3 (in), 6 PL (in), 7 GND (power) hidden to GND, 8 EO (in), 9 CLK (in), 10 Q3 (out), 11 Q2 (out), 12 Q1 (out), 13 Q0 (out), 14 VCC (power) hidden to VCC

## 74LS298
designator U?
footprint DIP-16
pins: 1 B1 (in), 2 A1 (in), 3 A0 (in), 4 B0 (in), 5 C1 (in), 6 D1 (in), 7 D0 (in), 8 GND (power) hidden to GND, 9 C0 (in), 10 S (in), 11 CLK (in), 12 QD (out), 13 QC (out), 14 QB (out), 15 QA (out), 16 VCC (power) hidden to VCC

## 74LS299
designator U?
footprint DIP-20
pins: 1 S0 (in), 2 ~{OE1} (in), 3 ~{OE1} (in), 4 I/O6 (io), 5 I/O4 (io), 6 I/O2 (io), 7 I/O0 (io), 8 Q0 (out), 9 CLR (in), 10 GND (power) hidden to GND, 11 DS0 (in), 12 CLK (in), 13 I/O1 (io), 14 I/O3 (io), 15 I/O5 (io), 16 I/O7 (io), 17 Q7 (out), 18 DS7 (in), 19 S1 (in), 20 VCC (power) hidden to VCC

## 74LS348
designator U?
footprint DIP-16
pins: 1 4 (in), 2 5 (in), 3 6 (in), 4 7 (in), 5 EI (in), 6 A2 (hiz), 7 A1 (hiz), 8 GND (power) hidden to GND, 9 A0 (hiz), 10 0 (in), 11 1 (in), 12 2 (in), 13 3 (in), 14 GS (hiz), 15 E0 (out), 16 VCC (power) hidden to VCC

## 74LS352
designator U?
footprint DIP-16
pins: 1 ~{EA} (in), 2 S1 (in), 3 13A (in), 4 12A (in), 5 I1A (in), 6 I0A (in), 7 ZA (out), 8 GND (power) hidden to GND, 9 ZB (out), 10 I0B (in), 11 I1B (in), 12 I2B (in), 13 I2C (in), 14 S0 (in), 15 ~{EB} (in), 16 VCC (power) hidden to VCC

## 74LS353
designator U?
footprint DIP-16
pins: 1 ~{EA} (in), 2 S1 (in), 3 13A (in), 4 12A (in), 5 I1A (in), 6 I0A (in), 7 ZA (hiz), 8 GND (power) hidden to GND, 9 ZB (hiz), 10 I0B (in), 11 I1B (in), 12 I2B (in), 13 I2C (in), 14 S0 (in), 15 ~{EB} (in), 16 VCC (power) hidden to VCC

## 74LS354
designator U?
footprint DIP-20
pins: 1 D7 (in), 2 D6 (in), 3 D5 (in), 4 D4 (in), 5 D3 (in), 6 D2 (in), 7 D1 (in), 8 D0 (in), 9 CLK (in), 10 GND (power) hidden to GND, 11 ~{SC} (in), 12 S2 (in), 13 S1 (in), 14 S0 (in), 15 ~{G1} (in), 16 ~{G2} (in), 17 G3 (in), 18 W (hiz), 19 Y (out), 20 VCC (power) hidden to VCC

## 74LS355
designator U?
footprint DIP-20
pins: 1 D7 (in), 2 D6 (in), 3 D5 (in), 4 D4 (in), 5 D3 (in), 6 D2 (in), 7 D1 (in), 8 D0 (in), 9 CLK (in), 10 GND (power) hidden to GND, 11 SC (in), 12 S2 (in), 13 S1 (in), 14 S0 (in), 15 G1 (in), 16 G2 (in), 17 G3 (in), 18 W (oc), 19 Y (oc), 20 VCC (power) hidden to VCC

## 74LS356
designator U?
footprint DIP-20
pins: 1 D7 (in), 2 D6 (in), 3 D5 (in), 4 D4 (in), 5 D3 (in), 6 D2 (in), 7 D1 (in), 8 D0 (in), 9 CLK, 10 GND (power) hidden to GND, 11 SC (in), 12 S2 (in), 13 S1 (in), 14 S0 (in), 15 G1 (in), 16 G2 (in), 17 G3 (in), 18 W (hiz), 19 Y (out), 20 VCC (power) hidden to VCC

## 74LS357
designator U?
footprint DIP-20
pins: 1 D7 (in), 2 D6 (in), 3 D5 (in), 4 D4 (in), 5 D3 (in), 6 D2 (in), 7 D1 (in), 8 D0 (in), 9 CLK (in), 10 GND (power) hidden to GND, 11 SC (in), 12 S2 (in), 13 S1 (in), 14 S0 (in), 15 G1 (in), 16 G2 (in), 17 G3 (in), 18 W (oc), 19 Y (oc), 20 VCC (power) hidden to VCC

## 74LS365
designator U?
footprint DIP-16
pins: 1 ~{E1} (in), 2 D1 (in), 3 Q1 (hiz), 4 D2 (in), 5 Q2 (hiz), 6 D3 (in), 7 Q3 (hiz), 8 GND (power) hidden to GND, 9 Q4 (hiz), 10 D4 (in), 11 Q5 (hiz), 12 D5 (in), 13 Q6 (hiz), 14 D6 (in), 15 ~{E1} (in), 16 VCC (power) hidden to VCC

## 74LS366
designator U?
footprint DIP-16
pins: 1 G1 (in), 2 D1 (in), 3 Q1 (hiz), 4 D2 (in), 5 Q2 (hiz), 6 D3 (in), 7 Q3 (hiz), 8 GND (power) hidden to GND, 9 Q4 (hiz), 10 D4 (in), 11 Q5 (hiz), 12 D5 (in), 13 Q6 (hiz), 14 D6 (in), 15 G2 (in), 16 VCC (power) hidden to VCC

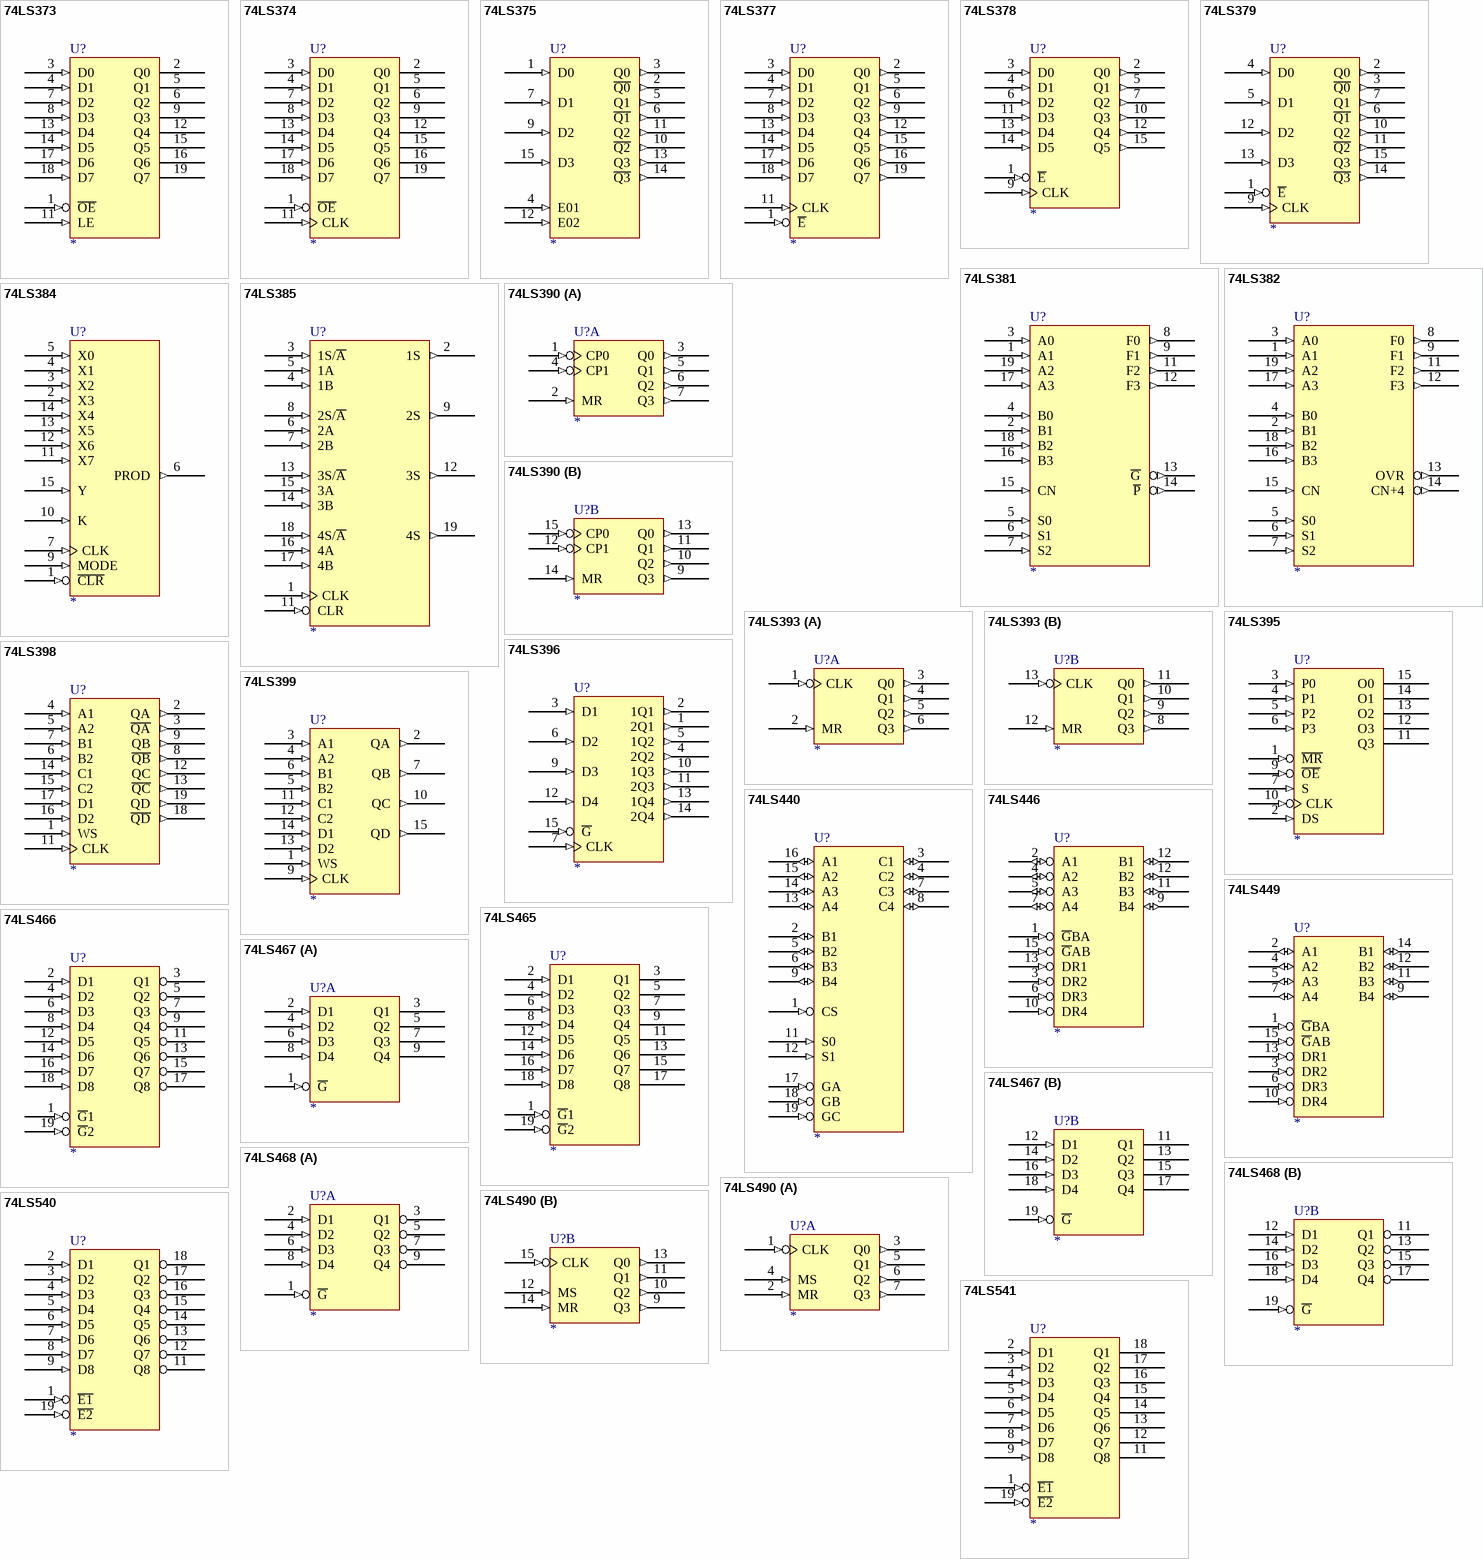
[diagram p32: symbols 74LS373 to 74LS541]

## 74LS373
designator U?
footprint DIP-20
pins: 1 ~{OE} (in), 2 Q0 (hiz), 3 D0 (in), 4 D1 (in), 5 Q1 (hiz), 6 Q2 (hiz), 7 D2 (in), 8 D3 (in), 9 Q3 (hiz), 10 GND (power) hidden to GND, 11 LE (in), 12 Q4 (hiz), 13 D4 (in), 14 D5 (in), 15 Q5 (hiz), 16 Q6 (hiz), 17 D6 (in), 18 D7 (in), 19 Q7 (hiz), 20 VCC (power) hidden to VCC

## 74LS374
designator U?
footprint DIP-20
pins: 1 ~{OE} (in), 2 Q0 (hiz), 3 D0 (in), 4 D1 (in), 5 Q1 (hiz), 6 Q2 (hiz), 7 D2 (in), 8 D3 (in), 9 Q3 (hiz), 10 GND (power) hidden to GND, 11 CLK (in), 12 Q4 (hiz), 13 D4 (in), 14 D5 (in), 15 Q5 (hiz), 16 Q6 (hiz), 17 D6 (in), 18 D7 (in), 19 Q7 (hiz), 20 VCC (power) hidden to VCC

## 74LS375
designator U?
footprint DIP-16
pins: 1 D0 (in), 2 ~{Q0} (out), 3 Q0 (out), 4 E01 (in), 5 Q1 (out), 6 ~{Q1} (out), 7 D1 (in), 8 GND (power) hidden to GND, 9 D2 (in), 10 ~{Q2} (out), 11 Q2 (out), 12 E02 (in), 13 Q3 (out), 14 ~{Q3} (out), 15 D3 (in), 16 VCC (power) hidden to VCC

## 74LS377
designator U?
footprint DIP-16
pins: 1 ~{E} (in), 2 Q0 (out), 3 D0 (in), 4 D1 (in), 5 Q1 (out), 6 Q2 (out), 7 D2 (in), 8 D3 (in), 9 Q3 (out), 11 CLK (in), 11 GND (power) hidden to GND, 12 Q4 (out), 13 D4 (in), 14 D5 (in), 15 Q5 (out), 16 Q6 (out), 17 D6 (in), 18 D7 (in), 19 Q7 (out), 21 VCC (power) hidden to VCC

## 74LS378
designator U?
footprint DIP-16
pins: 1 ~{E} (in), 2 Q0 (out), 3 D0 (in), 4 D1 (in), 5 Q1 (out), 6 D2 (in), 7 Q2 (out), 8 GND (power) hidden to GND, 9 CLK (in), 10 Q3 (out), 11 D3 (in), 12 Q4 (out), 13 D4 (in), 14 D5 (in), 15 Q5 (out), 16 VCC (power) hidden to VCC

## 74LS379
designator U?
footprint DIP-16
pins: 1 ~{E} (in), 2 Q0 (out), 3 ~{Q0} (out), 4 D0 (in), 5 D1 (in), 6 ~{Q1} (out), 7 Q1 (out), 8 GND (power) hidden to GND, 9 CLK (in), 10 Q2 (out), 11 ~{Q2} (out), 12 D2 (in), 13 D3 (in), 14 ~{Q3} (out), 15 Q3 (out), 16 VCC (power) hidden to VCC

## 74LS381
designator U?
footprint DIP-16
pins: 1 A1 (in), 2 B1 (in), 3 A0 (in), 4 B0 (in), 5 S0 (in), 6 S1 (in), 7 S2 (in), 8 F0 (out), 9 F1 (out), 10 GND (power) hidden to GND, 11 F2 (out), 12 F3 (out), 13 ~{G} (out), 14 ~{P} (out), 15 CN (in), 16 B3 (in), 17 A3 (in), 18 B2 (in), 19 A2 (in), 20 VCC (power) hidden to VCC

## 74LS382
designator U?
footprint DIP-20
pins: 1 A1 (in), 2 B1 (in), 3 A0 (in), 4 B0 (in), 5 S0 (in), 6 S1 (in), 7 S2 (in), 8 F0 (out), 9 F1 (out), 10 GND (power) hidden to GND, 11 F2 (out), 12 F3 (out), 13 OVR (out), 14 CN+4 (out), 15 CN (in), 16 B3 (in), 17 A3 (in), 18 B2 (in), 19 A2 (in), 20 VCC (power) hidden to VCC